# Altium schematic symbol library J 集成块.SchLib: 438 symbols (part 2 of 2)
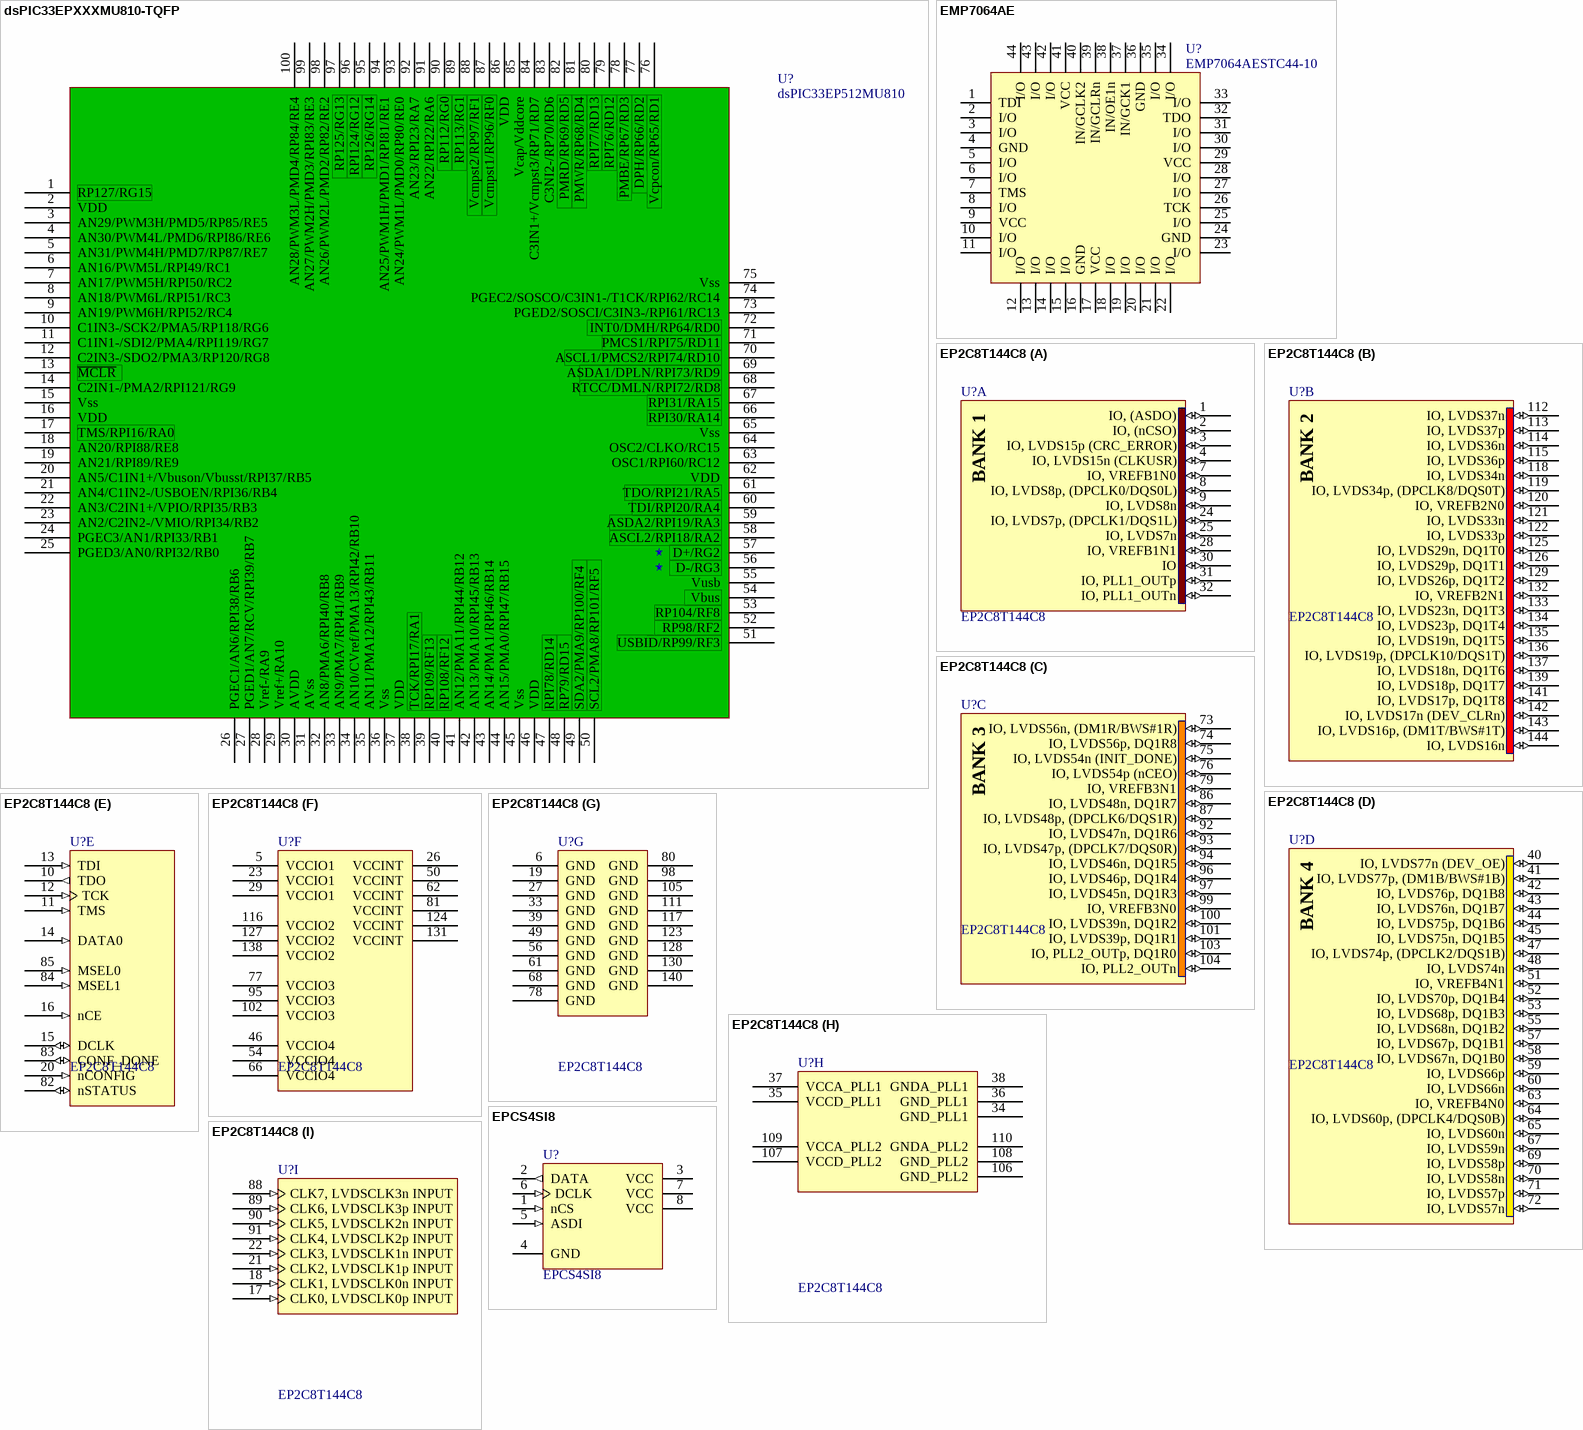
[diagram p19: symbols dsPIC33EPXXXMU810-TQFP to EPCS4SI8]

## dsPIC33EPXXXMU810-TQFP
designator U?, comment dsPIC33EP512MU810
pins: 1 RP127/RG15, 2 VDD, 3 AN29/PWM3H/PMD5/RP85/RE5, 4 AN30/PWM4L/PMD6/RPI86/RE6, 5 AN31/PWM4H/PMD7/RP87/RE7, 6 AN16/PWM5L/RPI49/RC1, 7 AN17/PWM5H/RPI50/RC2, 8 AN18/PWM6L/RPI51/RC3, 9 AN19/PWM6H/RPI52/RC4, 10 C1IN3-/SCK2/PMA5/RP118/RG6, 11 C1IN1-/SDI2/PMA4/RPI119/RG7, 12 C2IN3-/SDO2/PMA3/RP120/RG8, 13 ~{MCLR}, 14 C2IN1-/PMA2/RPI121/RG9, 15 Vss, 16 VDD, 17 TMS/RPI16/RA0, 18 AN20/RPI88/RE8, 19 AN21/RPI89/RE9, 20 AN5/C1IN1+/Vbuson/Vbusst/RPI37/RB5, 21 AN4/C1IN2-/USBOEN/RPI36/RB4, 22 AN3/C2IN1+/VPIO/RPI35/RB3, 23 AN2/C2IN2-/VMIO/RPI34/RB2, 24 PGEC3/AN1/RPI33/RB1, 25 PGED3/AN0/RPI32/RB0, 26 PGEC1/AN6/RPI38/RB6, 27 PGED1/AN7/RCV/RPI39/RB7, 28 Vref-/RA9, 29 Vref+/RA10, 30 AVDD, 31 AVss, 32 AN8/PMA6/RPI40/RB8, 33 AN9/PMA7/RPI41/RB9, 34 AN10/CVref/PMA13/RPI42/RB10, 35 AN11/PMA12/RPI43/RB11, 36 Vss, 37 VDD, 38 TCK/RPI17/RA1, 39 RP109/RF13, 40 RP108/RF12, 41 AN12/PMA11/RPI44/RB12, 42 AN13/PMA10/RPI45/RB13, 43 AN14/PMA1/RPI46/RB14, 44 AN15/PMA0/RPI47/RB15, 45 Vss, 46 VDD, 47 RPI78/RD14, 48 RP79/RD15, 49 SDA2/PMA9/RP100/RF4, 50 SCL2/PMA8/RP101/RF5, 51 USBID/RP99/RF3, 52 RP98/RF2, 53 RP104/RF8, 54 Vbus, 55 Vusb, 56 D-/RG3, 57 D+/RG2, 58 ASCL2/RPI18/RA2, 59 ASDA2/RPI19/RA3, 60 TDI/RPI20/RA4, 61 TDO/RPI21/RA5, 62 VDD, 63 OSC1/RPI60/RC12, 64 OSC2/CLKO/RC15, 65 Vss, 66 RPI30/RA14, 67 RPI31/RA15, 68 RTCC/DMLN/RPI72/RD8, 69 ASDA1/DPLN/RPI73/RD9, 70 ASCL1/PMCS2/RPI74/RD10, 71 PMCS1/RPI75/RD11, 72 INT0/DMH/RP64/RD0, 73 PGED2/SOSCI/C3IN3-/RPI61/RC13, 74 PGEC2/SOSCO/C3IN1-/T1CK/RPI62/RC14, 75 Vss, 76 Vcpcon/RP65/RD1, 77 DPH/RP66/RD2, 78 PMBE/RP67/RD3, 79 RPI76/RD12, 80 RPI77/RD13, 81 PMWR/RP68/RD4, 82 PMRD/RP69/RD5, 83 C3NI2-/RP70/RD6, 84 C3IN1+/Vcmpst3/RP71/RD7, 85 Vcap/Vddcore, 86 VDD, 87 Vcmpst1/RP96/RF0, 88 Vcmpst2/RP97/RF1, 89 RP113/RG1, 90 RP112/RG0, 91 AN22/RPI22/RA6, 92 AN23/RPI23/RA7, 93 AN24/PWM1L/PMD0/RP80/RE0, 94 AN25/PWM1H/PMD1/RPI81/RE1, 95 RP126/RG14, 96 RPI124/RG12, 97 RP125/RG13, 98 AN26/PWM2L/PMD2/RP82/RE2, 99 AN27/PWM2H/PMD3/RPI83/RE3, 100 AN28/PWM3L/PMD4/RP84/RE4
text: ★

## EMP7064AE
designator U?, comment EMP7064AESTC44-10
ATMEL公司CPLD
pins: 1 TDI, 2 I/O, 3 I/O, 4 GND, 5 I/O, 6 I/O, 7 TMS, 8 I/O, 9 VCC, 10 I/O, 11 I/O, 12 I/O, 13 I/O, 14 I/O, 15 I/O, 16 GND, 17 VCC, 18 I/O, 19 I/O, 20 I/O, 21 I/O, 22 I/O, 23 I/O, 24 GND, 25 I/O, 26 TCK, 27 I/O, 28 I/O, 29 VCC, 30 I/O, 31 I/O, 32 TDO, 33 I/O, 34 I/O, 35 I/O, 36 GND, 37 IN/GCK1, 38 IN/OE1n, 39 IN/GCLRn, 40 IN/GCLK2, 41 VCC, 42 I/O, 43 I/O, 44 I/O
2 alternate drawings of the same symbol

## EP2C8T144C8
designator U?
Cyclone II Family, 1.2V FPGA, 85 I/O Pins, 2 PLLs, 144-Pin TQFP, Speed Grade 8, Commercial Grade; Published: 4-Mar-2005; LatestRevisionDate: 14-May-2007; LatestRevisionNote: DATA0 pin is now INPUT.; DatasheetVersion: ver3.3, Feb-2008; PackageVersion: ver15.4, Dec-2008; PackageReference: TQFP144; Publisher: Altium Limited; PackageDescription: 144-Pin Plastic Thin Quad Flat Pack (TQFP144) - Wire Bond; Supplier 1: Digi-Key; Supplier Part Number 1: 544-1458-ND; Code_JEDEC: MS-026-BFB; ComponentLink1Description: Manufacturer Link; ComponentLink1URL: http://www.altera.com/products/devices/cyclone2/cy2-index.jsp; ComponentLink2Description: Handbook; ComponentLink2URL: http://www.altera.com/literature/hb/cyc2/cyc2_cii5v1.pdf; ComponentLink3Description: Packaging Specification; ComponentLink3URL: http://www.altera.com/literature/ds/dspkg.pdf
part A pins: 1 IO, (ASDO) (io), 2 IO, (nCSO) (io), 3 IO, LVDS15p (CRC_ERROR) (io), 4 IO, LVDS15n (CLKUSR) (io), 7 IO, VREFB1N0 (io), 8 IO, LVDS8p, (DPCLK0/DQS0L) (io), 9 IO, LVDS8n (io), 24 IO, LVDS7p, (DPCLK1/DQS1L) (io), 25 IO, LVDS7n (io), 28 IO, VREFB1N1 (io), 30 IO (io), 31 IO, PLL1_OUTp (io), 32 IO, PLL1_OUTn (io)
part B pins: 112 IO, LVDS37n (io), 113 IO, LVDS37p (io), 114 IO, LVDS36n (io), 115 IO, LVDS36p (io), 118 IO, LVDS34n (io), 119 IO, LVDS34p, (DPCLK8/DQS0T) (io), 120 IO, VREFB2N0 (io), 121 IO, LVDS33n (io), 122 IO, LVDS33p (io), 125 IO, LVDS29n, DQ1T0 (io), 126 IO, LVDS29p, DQ1T1 (io), 129 IO, LVDS26p, DQ1T2 (io), 132 IO, VREFB2N1 (io), 133 IO, LVDS23n, DQ1T3 (io), 134 IO, LVDS23p, DQ1T4 (io), 135 IO, LVDS19n, DQ1T5 (io), 136 IO, LVDS19p, (DPCLK10/DQS1T) (io), 137 IO, LVDS18n, DQ1T6 (io), 139 IO, LVDS18p, DQ1T7 (io), 141 IO, LVDS17p, DQ1T8 (io), 142 IO, LVDS17n (DEV_CLRn) (io), 143 IO, LVDS16p, (DM1T/BWS#1T) (io), 144 IO, LVDS16n (io)
part C pins: 73 IO, LVDS56n, (DM1R/BWS#1R) (io), 74 IO, LVDS56p, DQ1R8 (io), 75 IO, LVDS54n (INIT_DONE) (io), 76 IO, LVDS54p (nCEO) (io), 79 IO, VREFB3N1 (io), 86 IO, LVDS48n, DQ1R7 (io), 87 IO, LVDS48p, (DPCLK6/DQS1R) (io), 92 IO, LVDS47n, DQ1R6 (io), 93 IO, LVDS47p, (DPCLK7/DQS0R) (io), 94 IO, LVDS46n, DQ1R5 (io), 96 IO, LVDS46p, DQ1R4 (io), 97 IO, LVDS45n, DQ1R3 (io), 99 IO, VREFB3N0 (io), 100 IO, LVDS39n, DQ1R2 (io), 101 IO, LVDS39p, DQ1R1 (io), 103 IO, PLL2_OUTp, DQ1R0 (io), 104 IO, PLL2_OUTn (io)
part D pins: 40 IO, LVDS77n (DEV_OE) (io), 41 IO, LVDS77p, (DM1B/BWS#1B) (io), 42 IO, LVDS76p, DQ1B8 (io), 43 IO, LVDS76n, DQ1B7 (io), 44 IO, LVDS75p, DQ1B6 (io), 45 IO, LVDS75n, DQ1B5 (io), 47 IO, LVDS74p, (DPCLK2/DQS1B) (io), 48 IO, LVDS74n (io), 51 IO, VREFB4N1 (io), 52 IO, LVDS70p, DQ1B4 (io), 53 IO, LVDS68p, DQ1B3 (io), 55 IO, LVDS68n, DQ1B2 (io), 57 IO, LVDS67p, DQ1B1 (io), 58 IO, LVDS67n, DQ1B0 (io), 59 IO, LVDS66p (io), 60 IO, LVDS66n (io), 63 IO, VREFB4N0 (io), 64 IO, LVDS60p, (DPCLK4/DQS0B) (io), 65 IO, LVDS60n (io), 67 IO, LVDS59n (io), 69 IO, LVDS58p (io), 70 IO, LVDS58n (io), 71 IO, LVDS57p (io), 72 IO, LVDS57n (io)
part E pins: 10 TDO (out), 11 TMS (in), 12 TCK (in), 13 TDI (in), 14 DATA0 (in), 15 DCLK (io), 16 nCE (in), 20 nCONFIG (in), 82 nSTATUS (io), 83 CONF_DONE (io), 84 MSEL1 (in), 85 MSEL0 (in)
part F pins: 5 VCCIO1 (power), 23 VCCIO1 (power), 26 VCCINT (power), 29 VCCIO1 (power), 46 VCCIO4 (power), 50 VCCINT (power), 54 VCCIO4 (power), 62 VCCINT (power), 66 VCCIO4 (power), 77 VCCIO3 (power), 81 VCCINT (power), 95 VCCIO3 (power), 102 VCCIO3 (power), 116 VCCIO2 (power), 124 VCCINT (power), 127 VCCIO2 (power), 131 VCCINT (power), 138 VCCIO2 (power)
part G pins: 6 GND (power), 19 GND (power), 27 GND (power), 33 GND (power), 39 GND (power), 49 GND (power), 56 GND (power), 61 GND (power), 68 GND (power), 78 GND (power), 80 GND (power), 98 GND (power), 105 GND (power), 111 GND (power), 117 GND (power), 123 GND (power), 128 GND (power), 130 GND (power), 140 GND (power)
part H pins: 34 GND_PLL1 (power), 35 VCCD_PLL1 (power), 36 GND_PLL1 (power), 37 VCCA_PLL1 (power), 38 GNDA_PLL1 (power), 106 GND_PLL2 (power), 107 VCCD_PLL2 (power), 108 GND_PLL2 (power), 109 VCCA_PLL2 (power), 110 GNDA_PLL2 (power)
part I pins: 17 CLK0, LVDSCLK0p INPUT (in), 18 CLK1, LVDSCLK0n INPUT (in), 21 CLK2, LVDSCLK1p INPUT (in), 22 CLK3, LVDSCLK1n INPUT (in), 88 CLK7, LVDSCLK3n INPUT (in), 89 CLK6, LVDSCLK3p INPUT (in), 90 CLK5, LVDSCLK2n INPUT (in), 91 CLK4, LVDSCLK2p INPUT (in)
part A text: BANK 1
part B text: BANK 2
part C text: BANK 3
part D text: BANK 4

## EPCS4SI8
designator U?
EPCS4 Series, In-system programmable 3.3V serial configuration device, 8-Pin SOIC, 4-Megabit, Industrial Grade; Configures: Cyclone II, Stratix II, & Cyclone Devices; Published: 17-Sep-2003; LatestRevisionDate: 13-Apr-2006; LatestRevisionNote: IPC-7351 Footprint Added.; DatasheetVersion: ver2.0, Oct-2003; PackageVersion: ver14.2, Oct-2005; PackageReference: SOIC8; Publisher: Altium Limited; PackageDescription: 8-Pin Small Outline Integrated Circuit Package (SOIC8); Supplier 1: Digi-Key; Supplier Part Number 1: 544-1243-5-ND; Code_JEDEC: MS-012-AA; Code_IPC: SOIC127P600-8; ComponentLink1Description: Manufacturer Link; ComponentLink1URL: http://www.altera.com/products/devices/config/cfg-index.html; ComponentLink2Description: Configuration Handbook; ComponentLink2URL: http://www.altera.com/literature/hb/cfg/config_handbook.pdf; ComponentLink3Description: Pinout Specification; ComponentLink3URL: http://www.altera.com/literature/hb/cfg/cyc_c51014.pdf; ComponentLink4Description: Packaging Specification; ComponentLink4URL: http://www.altera.com/literature/ds/dspkg.pdf
pins: 1 nCS (in) "Active low, chip select input", 2 DATA (out) "Serial data out", 3 VCC (power) "3.3V supply", 4 GND (power) "Ground", 5 ASDI (in) "AS data in", 6 DCLK (in) "Provides timing of the serial interface", 7 VCC (power) "3.3V supply", 8 VCC (power) "3.3V supply"

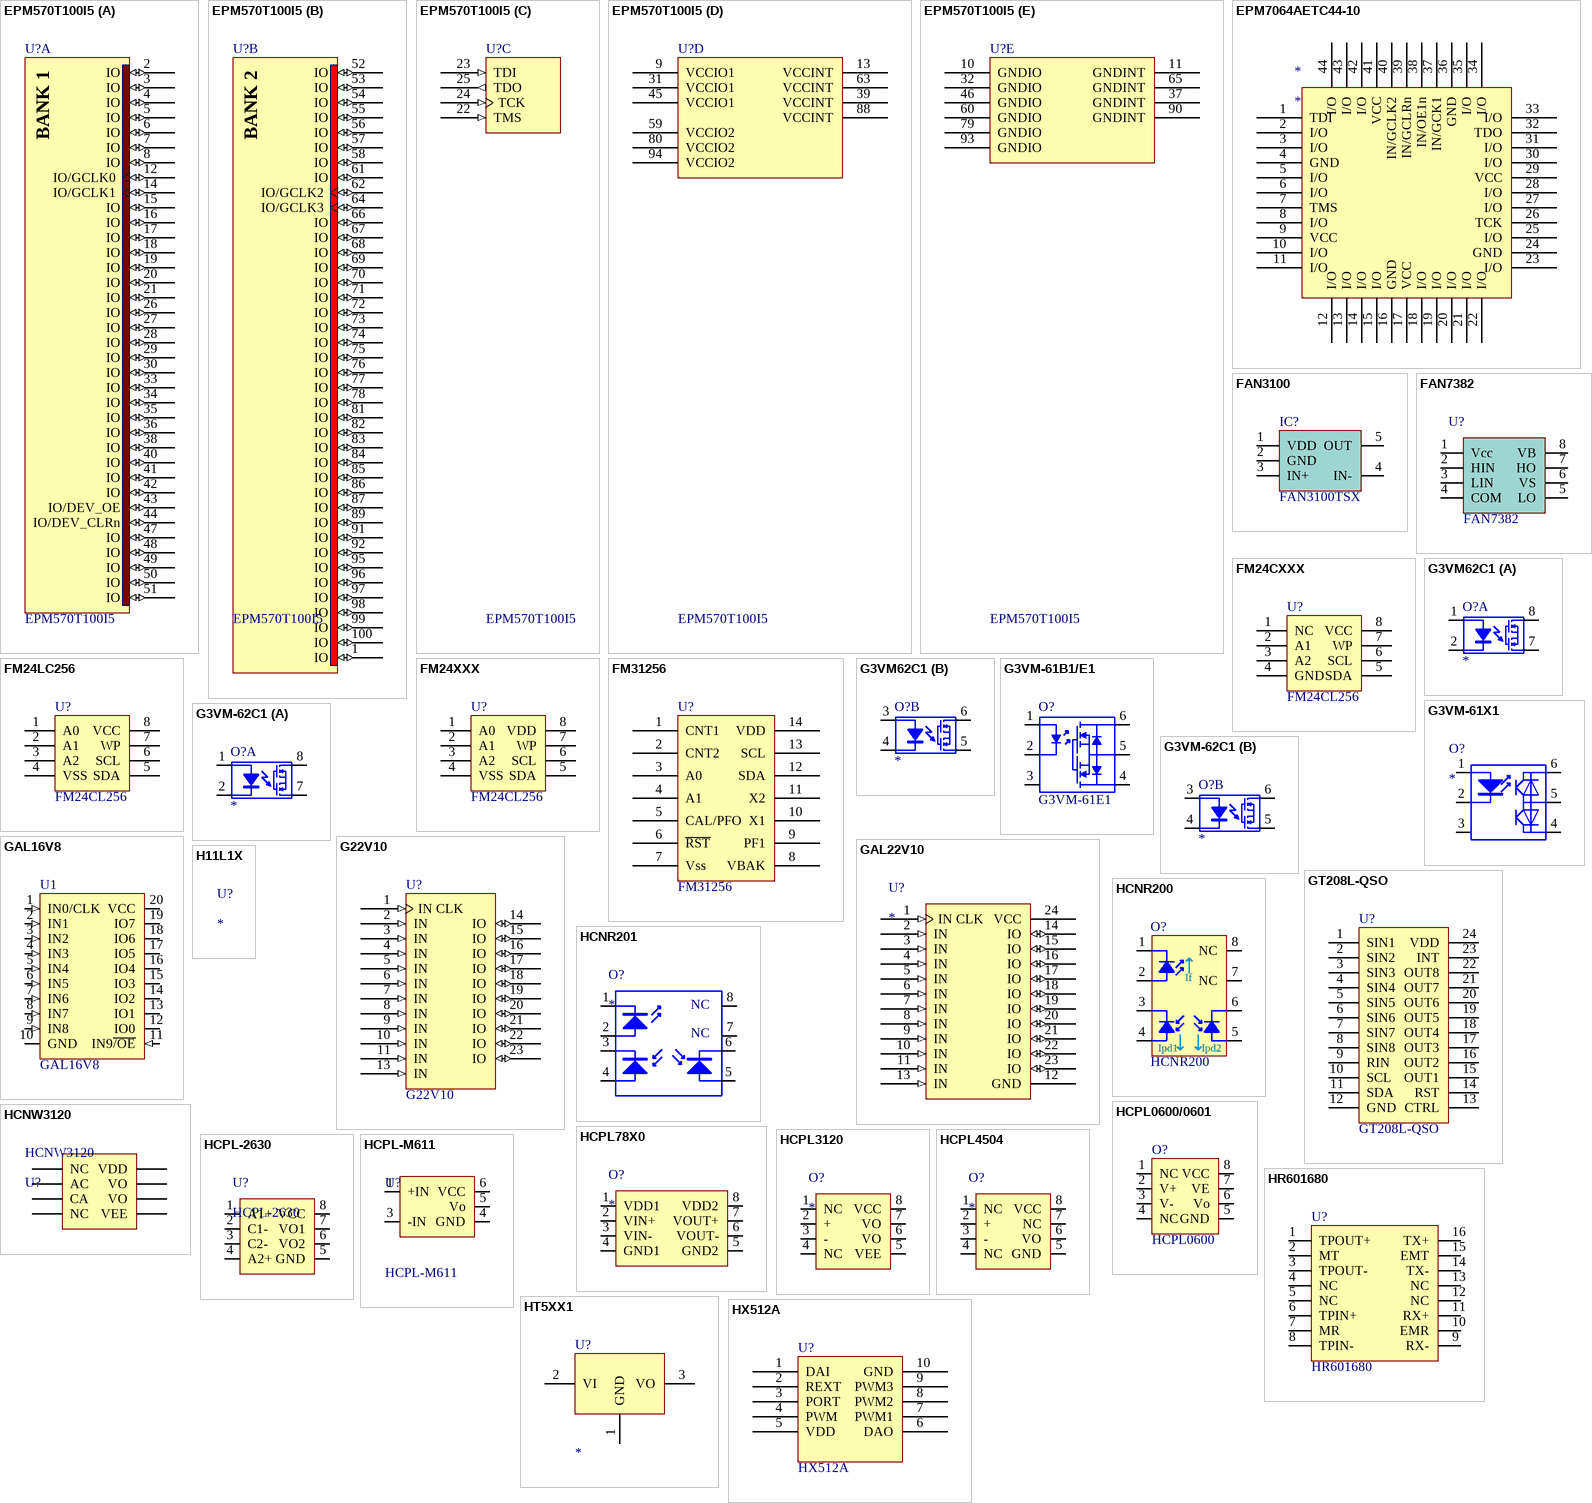
[diagram p10: symbols EPM570T100I5 to HX512A]

## EPM570T100I5
designator U?
MAX II 3.3/2.5V CPLD, 76 IOs, 570 Logic Elements, 100-Pin Plastic TQFP, Industrial Temperature, Speed Grade 5; Note: Each set of VCCIO pins can be connected to 3.3V, 2.5V, 1.8V, or 1.5V.; Note: All VCCINT pins must be connected to either 3.3V or 2.5V (but not a combination of both).; Published: 18-Aug-2005; LatestRevisionDate: 13-Apr-2006; LatestRevisionNote: IPC-7351 Footprint Added.; DatasheetVersion: ver1.8, Jul-2006; PackageVersion: ver14.3, Jul-2006; PackageReference: TQFP100; Publisher: Altium Limited; PackageDescription: 100-Pin Plastic Thin Quad Flat Pack (TQFP100); Code_JEDEC: MS-026-AED; ComponentLink1Description: Manufacturer Link; ComponentLink1URL: http://www.altera.com/products/devices/cpld/max2/mx2-index.jsp; ComponentLink2Description: Handbook; ComponentLink2URL: http://www.altera.com/literature/hb/max2/max2_mii5v1.pdf; ComponentLink3Description: Packaging Specification; ComponentLink3URL: http://www.altera.com/literature/ds/dspkg.pdf
part A pins: 2 IO (io), 3 IO (io), 4 IO (io), 5 IO (io), 6 IO (io), 7 IO (io), 8 IO (io), 12 IO/GCLK0 (io), 14 IO/GCLK1 (io), 15 IO (io), 16 IO (io), 17 IO (io), 18 IO (io), 19 IO (io), 20 IO (io), 21 IO (io), 26 IO (io), 27 IO (io), 28 IO (io), 29 IO (io), 30 IO (io), 33 IO (io), 34 IO (io), 35 IO (io), 36 IO (io), 38 IO (io), 40 IO (io), 41 IO (io), 42 IO (io), 43 IO/DEV_OE (io), 44 IO/DEV_CLRn (io), 47 IO (io), 48 IO (io), 49 IO (io), 50 IO (io), 51 IO (io)
part B pins: 1 IO (io), 52 IO (io), 53 IO (io), 54 IO (io), 55 IO (io), 56 IO (io), 57 IO (io), 58 IO (io), 61 IO (io), 62 IO/GCLK2 (io), 64 IO/GCLK3 (io), 66 IO (io), 67 IO (io), 68 IO (io), 69 IO (io), 70 IO (io), 71 IO (io), 72 IO (io), 73 IO (io), 74 IO (io), 75 IO (io), 76 IO (io), 77 IO (io), 78 IO (io), 81 IO (io), 82 IO (io), 83 IO (io), 84 IO (io), 85 IO (io), 86 IO (io), 87 IO (io), 89 IO (io), 91 IO (io), 92 IO (io), 95 IO (io), 96 IO (io), 97 IO (io), 98 IO (io), 99 IO (io), 100 IO (io)
part C pins: 22 TMS (in), 23 TDI (in), 24 TCK (in), 25 TDO (out)
part D pins: 9 VCCIO1 (power), 13 VCCINT (power), 31 VCCIO1 (power), 39 VCCINT (power), 45 VCCIO1 (power), 59 VCCIO2 (power), 63 VCCINT (power), 80 VCCIO2 (power), 88 VCCINT (power), 94 VCCIO2 (power)
part E pins: 10 GNDIO (power), 11 GNDINT (power), 32 GNDIO (power), 37 GNDINT (power), 46 GNDIO (power), 60 GNDIO (power), 65 GNDINT (power), 79 GNDIO (power), 90 GNDINT (power), 93 GNDIO (power)
part A text: BANK 1
part B text: BANK 2

## EPM7064AETC44-10
designator *
pins: 1 TDI, 2 I/O, 3 I/O, 4 GND, 5 I/O, 6 I/O, 7 TMS, 8 I/O, 9 VCC, 10 I/O, 11 I/O, 12 I/O, 13 I/O, 14 I/O, 15 I/O, 16 GND, 17 VCC, 18 I/O, 19 I/O, 20 I/O, 21 I/O, 22 I/O, 23 I/O, 24 GND, 25 I/O, 26 TCK, 27 I/O, 28 I/O, 29 VCC, 30 I/O, 31 I/O, 32 TDO, 33 I/O, 34 I/O, 35 I/O, 36 GND, 37 IN/GCK1, 38 IN/OE1n, 39 IN/GCLRn, 40 IN/GCLK2, 41 VCC, 42 I/O, 43 I/O, 44 I/O

## FAN3100
designator IC?, comment FAN3100TSX
pins: 1 VDD (oc), 2 GND, 3 IN+, 4 IN-, 5 OUT

## FAN7382
designator U?
pins: 1 Vcc (oc), 2 HIN, 3 LIN, 4 COM (power), 5 LO, 6 VS, 7 HO, 8 VB

## FM24CXXX
designator U?, comment FM24CL256
pins: 1 NC, 2 A1, 3 A2, 4 GND, 5 SDA, 6 SCL, 7 WP, 8 VCC

## FM24LC256
designator U?, comment FM24CL256
pins: 1 A0, 2 A1, 3 A2, 4 VSS, 5 SDA, 6 SCL, 7 WP, 8 VCC

## FM24XXX
designator U?, comment FM24CL256
pins: 1 A0, 2 A1, 3 A2, 4 VSS, 5 SDA, 6 SCL, 7 WP, 8 VDD

## FM31256
designator U?
pins: 1 CNT1, 2 CNT2, 3 A0, 4 A1, 5 CAL/PFO, 6 ~{RST}, 7 Vss, 8 VBAK, 9 PF1, 10 X1, 11 X2, 12 SDA, 13 SCL, 14 VDD

## G3VM62C1
designator O?
光耦
part A pins: 1 A, 2 K, 7, 8
part B pins: 3 A, 4 K, 5, 6

## G3VM-61B1/E1
designator O?, comment G3VM-61E1
光耦继电器
pins: 1, 2, 3, 4, 5, 6

## G3VM-61X1
designator O?
隔离器件
pins: 1, 2, 3, 4, 5, 6

## G3VM-62C1
designator O?
隔离器件
part A pins: 1, 2, 7, 8
part B pins: 3, 4, 5, 6

## G22V10
designator U?
IC CMOS PLD HIGH PERFORMANCE E
pins: 1 IN CLK (in), 2 IN  (in), 3 IN (in), 4 IN (in), 5 IN (in), 6 IN (in), 7 IN (in), 8 IN (in), 9 IN  (in), 10 IN  (in), 11 IN  (in), 12 GND (power) hidden to GND, 13 IN (in), 14 IO (io), 15 IO (io), 16 IO (io), 17 IO (io), 18 IO (io), 19 IO (io), 20 IO (io), 21 IO (io), 22 IO (io), 23 IO (io), 24 VCC (power) hidden to VCC

## GAL16V8
designator U1
集成块
pins: 1 IN0/CLK (in), 2 IN1 (in), 3 IN2 (in), 4 IN3 (in), 5 IN4 (in), 6 IN5 (in), 7 IN6 (in), 8 IN7 (in), 9 IN8 (in), 10 GND (power), 11 IN9~{/OE} (in), 12 IO0 (io), 13 IO1 (io), 14 IO2 (io), 15 IO3 (io), 16 IO4 (io), 17 IO5 (io), 18 IO6 (io), 19 IO7 (io), 20 VCC (power)

## GAL22V10
designator U?
pins: 1 IN CLK (in), 2 IN (in), 3 IN (in), 4 IN (in), 5 IN (in), 6 IN (in), 7 IN (in), 8 IN (in), 9 IN (in), 10 IN (in), 11 IN (in), 12 GND, 13 IN (in), 14 IO (io), 15 IO (io), 16 IO (io), 17 IO (io), 18 IO (io), 19 IO (io), 20 IO (io), 21 IO (io), 22 IO (io), 23 IO (io), 24 VCC

## GT208L-QSO
designator U?
GREEN TOUCH触摸芯片
pins: 1 SIN1, 2 SIN2, 3 SIN3, 4 SIN4, 5 SIN5, 6 SIN6, 7 SIN7, 8 SIN8, 9 RIN, 10 SCL, 11 SDA, 12 GND, 13 CTRL, 14 RST, 15 OUT1, 16 OUT2, 17 OUT3, 18 OUT4, 19 OUT5, 20 OUT6, 21 OUT7, 22 OUT8, 23 INT, 24 VDD

## H11L1X
designator U?

## HCNR200
designator O?
线性光藕
pins: 1, 2, 3, 4, 5, 6, 7 NC, 8 NC
text: If; Ipd1; Ipd2

## HCNR201
designator O?
隔离器件
pins: 1, 2, 3, 4, 5, 6, 7, 8
text: NC

## HCNW3120
designator HCNW3120, comment U?
pins: 1 NC, 2 AC, 3 CA, 4 NC, 5 VEE, 6 VO, 7 VO, 8 VDD

## HCPL78X0
designator O?
隔离器件
pins: 1 VDD1, 2 VIN+, 3 VIN-, 4 GND1, 5 GND2, 6 VOUT-, 7 VOUT+, 8 VDD2

## HCPL0600/0601
designator O?, comment HCPL0600
高速光耦
pins: 1 NC, 2 V+, 3 V-, 4 NC, 5 GND, 6 Vo, 7 VE, 8 VCC

## HCPL3120
designator O?
隔离器件
pins: 1 NC, 2 +, 3 -, 4 NC, 5 VEE, 6 VO, 7 VO, 8 VCC

## HCPL4504
designator O?
隔离器件
pins: 1 NC, 2 +, 3 -, 4 NC, 5 GND, 6 VO, 7 NC, 8 VCC

## HCPL-2630
designator U?
pins: 1 A1+, 2 C1-, 3 C2-, 4 A2+, 5 GND, 6 VO2, 7 VO1, 8 VCC

## HCPL-M611
designator U?
高速光耦
pins: 1 +IN, 3 -IN, 4 GND, 5 Vo, 6 VCC

## HR601680
designator U?
pins: 1 TPOUT+, 2 MT, 3 TPOUT-, 4 NC, 5 NC, 6 TPIN+, 7 MR, 8 TPIN-, 9 RX-, 10 EMR, 11 RX+, 12 NC, 13 NC, 14 TX-, 15 EMT, 16 TX+

## HT5XX1
designator U?
集成稳压块
pins: 1 GND, 2 VI, 3 VO

## HX512A
designator U?
pins: 1 DAI, 2 REXT, 3 PORT, 4 PWM, 5 VDD, 6 DAO, 7 PWM1, 8 PWM2, 9 PWM3, 10 GND

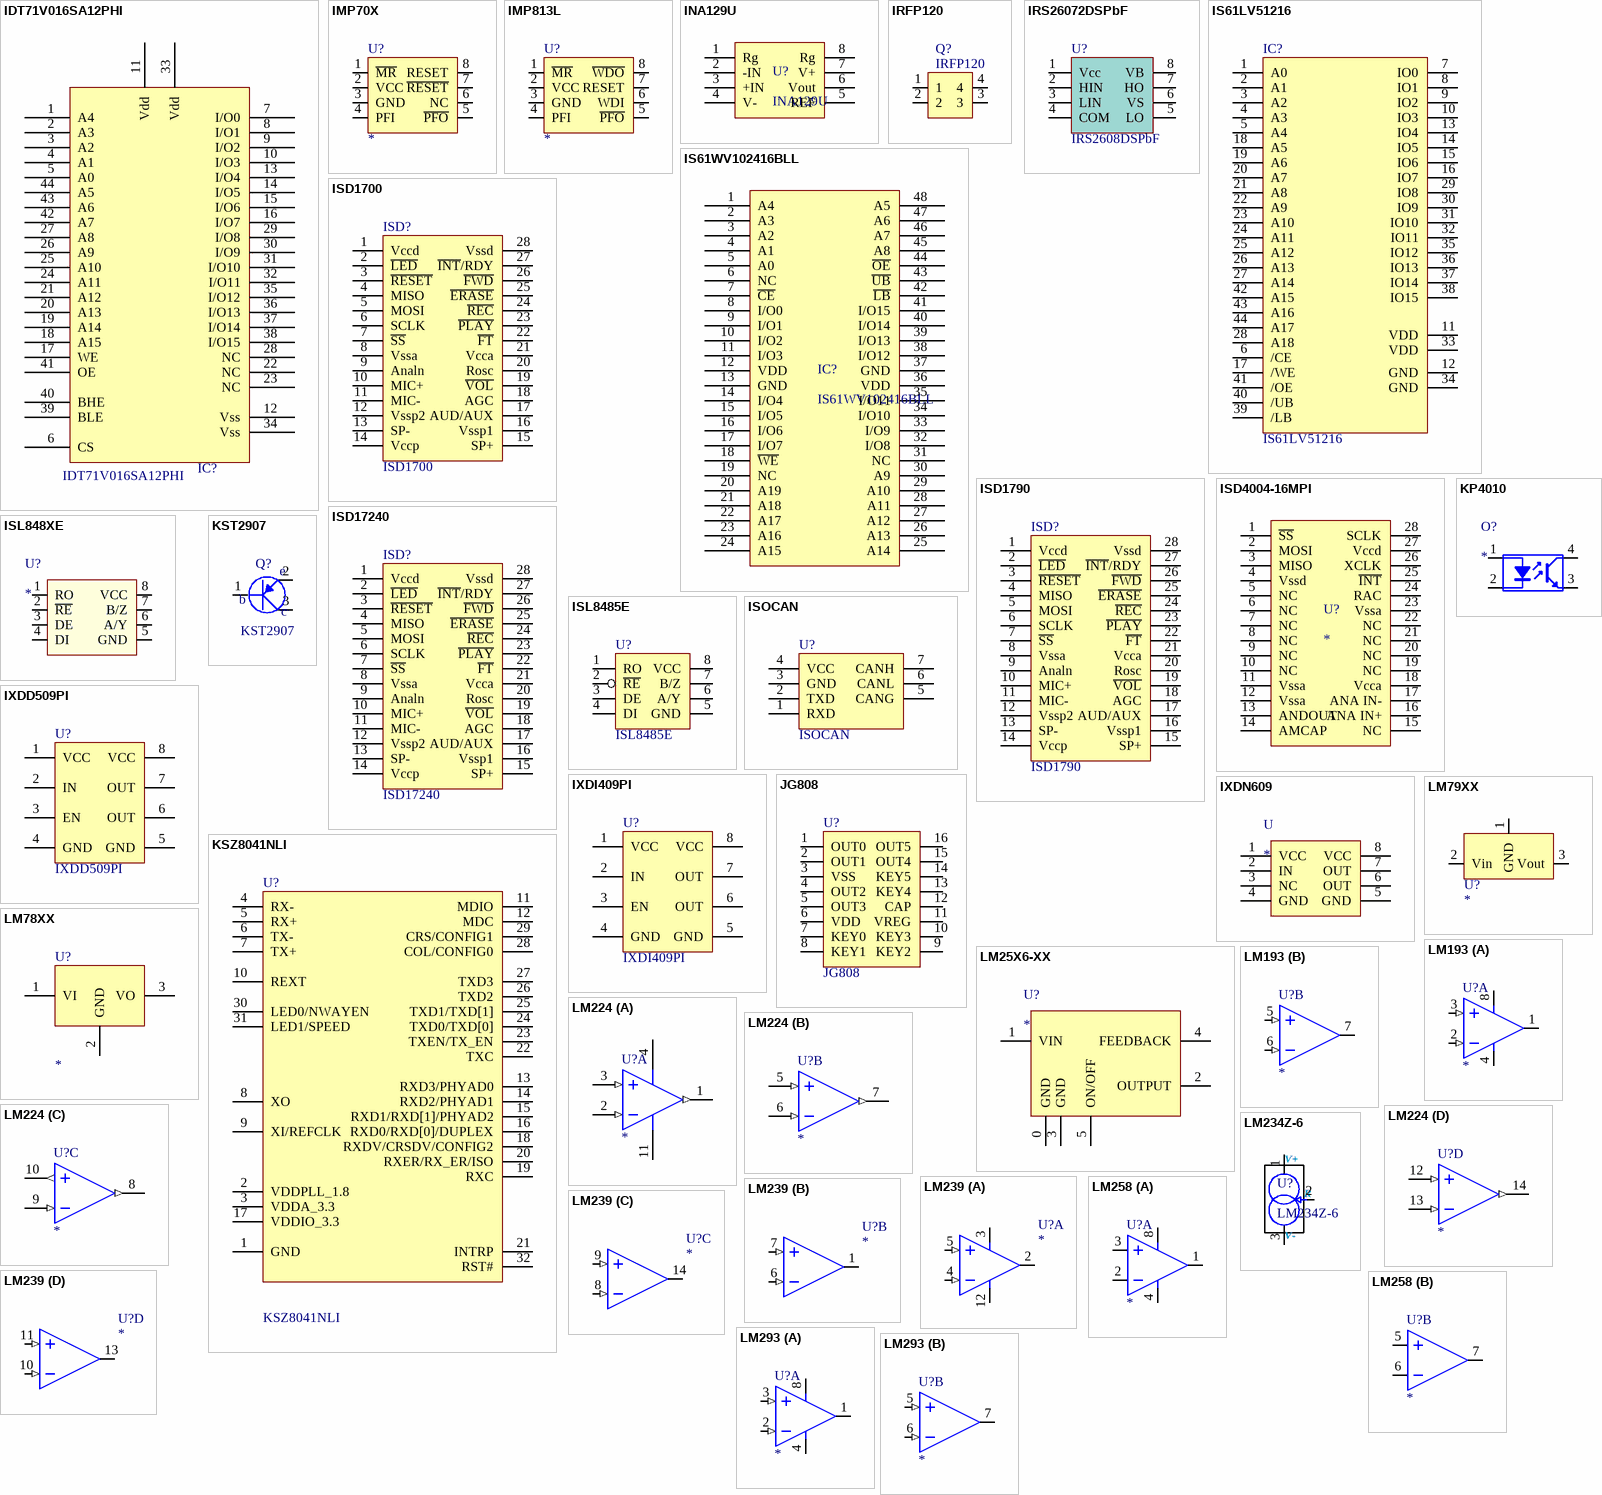
[diagram p11: symbols IDT71V016SA12PHI to LM293]

## IDT71V016SA12PHI
designator IC?
pins: 1 A4, 2 A3, 3 A2, 4 A1, 5 A0, 6 CS, 7 I/O0, 8 I/O1, 9 I/O2, 10 I/O3, 11 Vdd, 12 Vss, 13 I/O4, 14 I/O5, 15 I/O6, 16 I/O7, 17 WE, 18 A15, 19 A14, 20 A13, 21 A12, 22 NC, 23 NC, 24 A11, 25 A10, 26 A9, 27 A8, 28 NC, 29 I/O8, 30 I/O9, 31 I/O10, 32 I/O11, 33 Vdd, 34 Vss, 35 I/O12, 36 I/O13, 37 I/O14, 38 I/O15, 39 BLE, 40 BHE, 41 OE, 42 A7, 43 A6, 44 A5
2 alternate drawings of the same symbol

## IMP70X
designator U?
集成块
pins: 1 ~{MR}, 2 VCC, 3 GND, 4 PFI, 5 ~{PFO}, 6 NC, 7 ~{RESET}, 8 RESET

## IMP813L
designator U?
集成块
pins: 1 ~{MR}, 2 VCC, 3 GND, 4 PFI, 5 ~{PFO}, 6 WDI, 7 RESET, 8 ~{WDO}

## INA129U
designator U?
pins: 1 Rg, 2 -IN, 3 +IN, 4 V-, 5 REF, 6 Vout, 7 V+, 8 Rg

## IRFP120
designator Q?
pins: 1, 2, 3, 4

## IRS26072DSPbF
designator U?, comment IRS2608DSPbF
pins: 1 Vcc (oc), 2 HIN, 3 LIN, 4 COM (power), 5 LO, 6 VS, 7 HO, 8 VB

## IS61LV51216
designator IC?
pins: 1 A0, 2 A1, 3 A2, 4 A3, 5 A4, 6 /CE, 7 IO0, 8 IO1, 9 IO2, 10 IO3, 11 VDD, 12 GND, 13 IO4, 14 IO5, 15 IO6, 16 IO7, 17 /WE, 18 A5, 19 A6, 20 A7, 21 A8, 22 A9, 23 A10, 24 A11, 25 A12, 26 A13, 27 A14, 28 A18, 29 IO8, 30 IO9, 31 IO10, 32 IO11, 33 VDD, 34 GND, 35 IO12, 36 IO13, 37 IO14, 38 IO15, 39 /LB, 40 /UB, 41 /OE, 42 A15, 43 A16, 44 A17
2 alternate drawings of the same symbol

## IS61WV102416BLL
designator IC?
SRAM 1024K*16
pins: 1 A4, 2 A3, 3 A2, 4 A1, 5 A0, 6 NC, 7 ~{CE}, 8 I/O0, 9 I/O1, 10 I/O2, 11 I/O3, 12 VDD, 13 GND, 14 I/O4, 15 I/O5, 16 I/O6, 17 I/O7, 18 ~{WE}, 19 NC, 20 A19, 21 A18, 22 A17, 23 A16, 24 A15, 25 A14, 26 A13, 27 A12, 28 A11, 29 A10, 30 A9, 31 NC, 32 I/O8, 33 I/O9, 34 I/O10, 35 I/O11, 36 VDD, 37 GND, 38 I/O12, 39 I/O13, 40 I/O14, 41 I/O15, 42 ~{LB}, 43 ~{UB}, 44 ~{OE}, 45 A8, 46 A7, 47 A6, 48 A5

## ISD1700
designator ISD?
pins: 1 Vccd, 2 ~{LED}, 3 ~{RESET}, 4 MISO, 5 MOSI, 6 SCLK, 7 ~{SS}, 8 Vssa, 9 Analn, 10 MIC+, 11 MIC-, 12 Vssp2, 13 SP-, 14 Vccp, 15 SP+, 16 Vssp1, 17 AUD/AUX, 18 AGC, 19 ~{VOL}, 20 Rosc, 21 Vcca, 22 ~{FT}, 23 ~{PLAY}, 24 ~{REC}, 25 ~{ERASE}, 26 ~{FWD}, 27 ~{INT}/RDY, 28 Vssd

## ISD1790
designator ISD?
pins: 1 Vccd, 2 ~{LED}, 3 ~{RESET}, 4 MISO, 5 MOSI, 6 SCLK, 7 ~{SS}, 8 Vssa, 9 Analn, 10 MIC+, 11 MIC-, 12 Vssp2, 13 SP-, 14 Vccp, 15 SP+, 16 Vssp1, 17 AUD/AUX, 18 AGC, 19 ~{VOL}, 20 Rosc, 21 Vcca, 22 ~{FT}, 23 ~{PLAY}, 24 ~{REC}, 25 ~{ERASE}, 26 ~{FWD}, 27 ~{INT}/RDY, 28 Vssd

## ISD4004-16MPI
designator U?
pins: 1 ~{SS}, 2 MOSI, 3 MISO, 4 Vssd, 5 NC, 6 NC, 7 NC, 8 NC, 9 NC, 10 NC, 11 Vssa, 12 Vssa, 13 ANDOUT, 14 AMCAP, 15 NC, 16 ANA IN+, 17 ANA IN-, 18 Vcca, 19 NC, 20 NC, 21 NC, 22 NC, 23 Vssa, 24 RAC, 25 ~{INT}, 26 XCLK, 27 Vccd, 28 SCLK

## ISD17240
designator ISD?
pins: 1 Vccd, 2 ~{LED}, 3 ~{RESET}, 4 MISO, 5 MOSI, 6 SCLK, 7 ~{SS}, 8 Vssa, 9 Analn, 10 MIC+, 11 MIC-, 12 Vssp2, 13 SP-, 14 Vccp, 15 SP+, 16 Vssp1, 17 AUD/AUX, 18 AGC, 19 ~{VOL}, 20 Rosc, 21 Vcca, 22 ~{FT}, 23 ~{PLAY}, 24 ~{REC}, 25 ~{ERASE}, 26 ~{FWD}, 27 ~{INT}/RDY, 28 Vssd

## ISL848XE
designator U?
pins: 1 RO, 2 ~{RE}, 3 DE, 4 DI, 5 GND, 6 A/Y, 7 B/Z, 8 VCC

## ISL8485E
designator U?
pins: 1 RO, 2 ~{RE}, 3 DE, 4 DI, 5 GND, 6 A/Y, 7 B/Z, 8 VCC

## ISOCAN
designator U?
3.3V
pins: 1 RXD, 2 TXD, 3 GND, 4 VCC, 5 CANG, 6 CANL, 7 CANH

## IXDD509PI
designator U?
IC
pins: 1 VCC, 2 IN, 3 EN, 4 GND, 5 GND, 6 OUT, 7 OUT, 8 VCC

## IXDI409PI
designator U?
IC
pins: 1 VCC, 2 IN, 3 EN, 4 GND, 5 GND, 6 OUT, 7 OUT, 8 VCC

## IXDN609
designator U
pins: 1 VCC, 2 IN, 3 NC, 4 GND, 5 GND, 6 OUT, 7 OUT, 8 VCC

## JG808
designator U?
pins: 1 OUT0, 2 OUT1, 3 VSS, 4 OUT2, 5 OUT3, 6 VDD, 7 KEY0, 8 KEY1, 9 KEY2, 10 KEY3, 11 VREG, 12 CAP, 13 KEY4, 14 KEY5, 15 OUT4, 16 OUT5

## KP4010
designator O?
隔离器件
pins: 1, 2, 3, 4

## KST2907
designator Q?
三极管
pins: 1 B, 2 E, 3 C
text: e; b; c

## KSZ8041NLI
designator U?
pins: 1 GND, 2 VDDPLL_1.8, 3 VDDA_3.3, 4 RX-, 5 RX+, 6 TX-, 7 TX+, 8 XO, 9 XI/REFCLK, 10 REXT, 11 MDIO, 12 MDC, 13 RXD3/PHYAD0, 14 RXD2/PHYAD1, 15 RXD1/RXD[1]/PHYAD2, 16 RXD0/RXD[0]/DUPLEX, 17 VDDIO_3.3, 18 RXDV/CRSDV/CONFIG2, 19 RXC, 20 RXER/RX_ER/ISO, 21 INTRP, 22 TXC, 23 TXEN/TX_EN, 24 TXD0/TXD[0], 25 TXD1/TXD[1], 26 TXD2, 27 TXD3, 28 COL/CONFIG0, 29 CRS/CONFIG1, 30 LED0/NWAYEN, 31 LED1/SPEED, 32 RST#
2 alternate drawings of the same symbol

## LM25X6-XX
designator U?
电源管理器件
footprint TO-263-5 (可调电源)
pins: 0 GND, 1 VIN, 2 OUTPUT, 3 GND, 4 FEEDBACK, 5 ON/OFF

## LM78XX
designator U?
集成稳压块
pins: 1 VI, 2 GND, 3 VO

## LM79XX
designator U?
集成稳压块
pins: 1 GND, 2 Vin, 3 Vout

## LM193
designator U?
运放
part A pins: 1 (oc), 2 (in), 3 (in), 4 (power), 8 (power)
part B pins: 5 (in), 6 (in), 7 (oc)

## LM224
designator U?
运放
part A pins: 1 (out), 2 (in), 3 (in), 4 (power), 11 (power)
part B pins: 5 (in), 6 (in), 7 (out)
part C pins: 8 (out), 9 (in), 10 (out)
part D pins: 12 (in), 13 (in), 14 (out)

## LM234Z-6
designator U?
pins: 1 V+ (power), 2 R, 3 V- (power)

## LM239
designator U?
运放
part A pins: 2 (oc), 3 (power), 4 (in), 5 (in), 12 (power)
part B pins: 1 (oc), 6 (in), 7 (in)
part C pins: 8 (in), 9 (in), 14 (oc)
part D pins: 10 (in), 11 (in), 13 (oc)

## LM258
designator U?
运放
part A pins: 1, 2, 3, 4, 8
part B pins: 5, 6, 7

## LM293
designator U?
运放
part A pins: 1 (oc), 2 (in), 3 (in), 4 (power), 8 (power)
part B pins: 5 (in), 6 (in), 7 (oc)

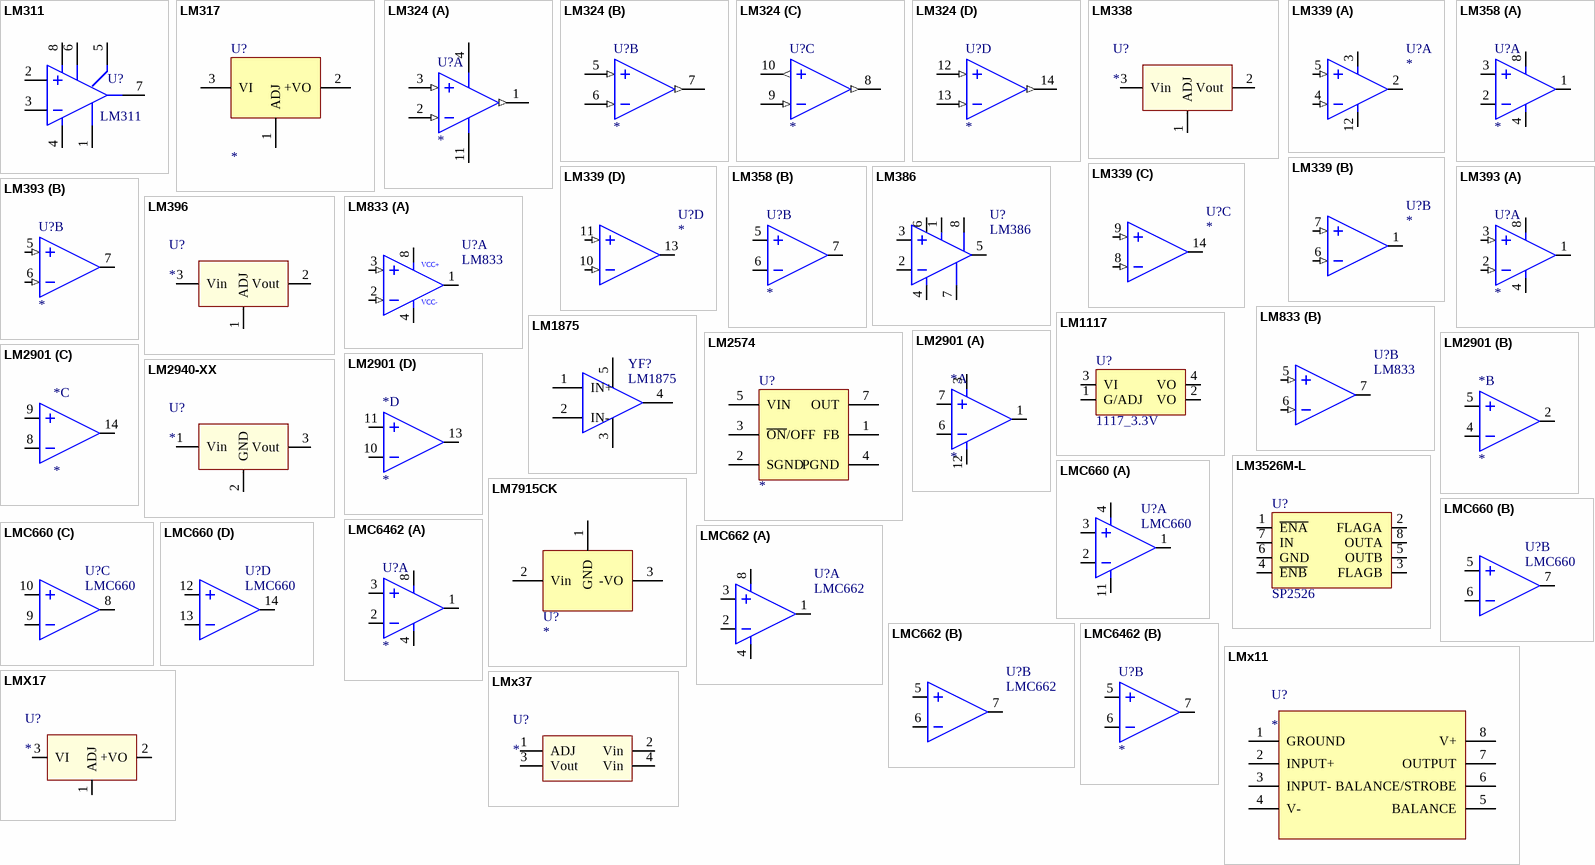
[diagram p12: symbols LM311 to LMx37]

## LM311
designator U?
pins: 1, 2, 3, 4, 5, 6, 7, 8

## LM317
designator U?
集成稳压块
pins: 1 ADJ, 2 +VO, 3 VI

## LM324
designator U?
运放
part A pins: 1 (out), 2 (in), 3 (in), 4 (power), 11 (power)
part B pins: 5 (in), 6 (in), 7 (out)
part C pins: 8 (out), 9 (in), 10 (out)
part D pins: 12 (in), 13 (in), 14 (out)

## LM338
designator U?
电源管理器件
pins: 1 ADJ, 2 Vout, 3 Vin

## LM339
designator U?
运放
part A pins: 2 (oc), 3 (power), 4 (in), 5 (in), 12 (power)
part B pins: 1 (oc), 6 (in), 7 (in)
part C pins: 8 (in), 9 (in), 14 (oc)
part D pins: 10 (in), 11 (in), 13 (oc)

## LM358
designator U?
运放
part A pins: 1, 2, 3, 4, 8
part B pins: 5, 6, 7

## LM386
designator U?
小功率音频功放
pins: 1 VCC, 2, 3, 4 GND, 5, 6 VCC, 7 VCC, 8 VCC

## LM393
designator U?
运放
part A pins: 1 (oc), 2 (in), 3 (in), 4 (power), 8 (power)
part B pins: 5 (in), 6 (in), 7 (oc)

## LM396
designator U?
电源管理器件
pins: 1 ADJ, 2 Vout, 3 Vin

## LM833
designator U?
part A pins: 1 (oc), 2 (in), 3 (in), 4 (power), 8 (power)
part B pins: 5 (in), 6 (in), 7 (oc)
part A text: VCC+; VCC-

## LM1117
designator U?, comment 1117_3.3V
1.8V,2.5V,3,3V,5V LDO稳压芯片
pins: 1 G/ADJ, 2 VO, 3 VI, 4 VO

## LM1875
designator YF?
footprint TDA2030B
footprint TDA2030
pins: 1 IN+, 2 IN-, 3, 4, 5 V

## LM2574
designator U?
集成稳压块
pins: 1 FB, 2 SGND, 3 ~{ON}/OFF, 4 PGND, 5 VIN, 7 OUT

## LM2901
designator *
part A pins: 1, 3 (power), 6, 7, 12 (power)
part B pins: 2, 4, 5
part C pins: 8, 9, 14
part D pins: 10, 11, 13

## LM2940-XX
designator U?
电源管理器件
pins: 1 Vin, 2 GND, 3 Vout

## LM3526M-L
designator U?, comment SP2526
pins: 1 ~{ENA}, 2 FLAGA, 3 FLAGB, 4 ~{ENB}, 5 OUTB, 6 GND, 7 IN, 8 OUTA
2 alternate drawings of the same symbol

## LM7915CK
designator U?
集成稳压块
pins: 1 GND, 2 Vin, 3 -VO

## LMC660
designator U?
part A pins: 1, 2, 3, 4 V+, 11 V-
part B pins: 5, 6, 7
part C pins: 8, 9, 10
part D pins: 12, 13, 14

## LMC662
designator U?
part A pins: 1, 2, 3, 4, 8
part B pins: 5, 6, 7

## LMC6462
designator U?
运放
part A pins: 1, 2, 3, 4, 8
part B pins: 5, 6, 7

## LMx11
designator U?
电源管理器件
pins: 1 GROUND, 2 INPUT+, 3 INPUT-, 4 V-, 5 BALANCE, 6 BALANCE/STROBE, 7 OUTPUT, 8 V+

## LMX17
designator U?
电源管理器件
pins: 1 ADJ, 2 +VO, 3 VI

## LMx37
designator U?
电源管理器件
pins: 1 ADJ, 2 Vin, 3 Vout, 4 Vin

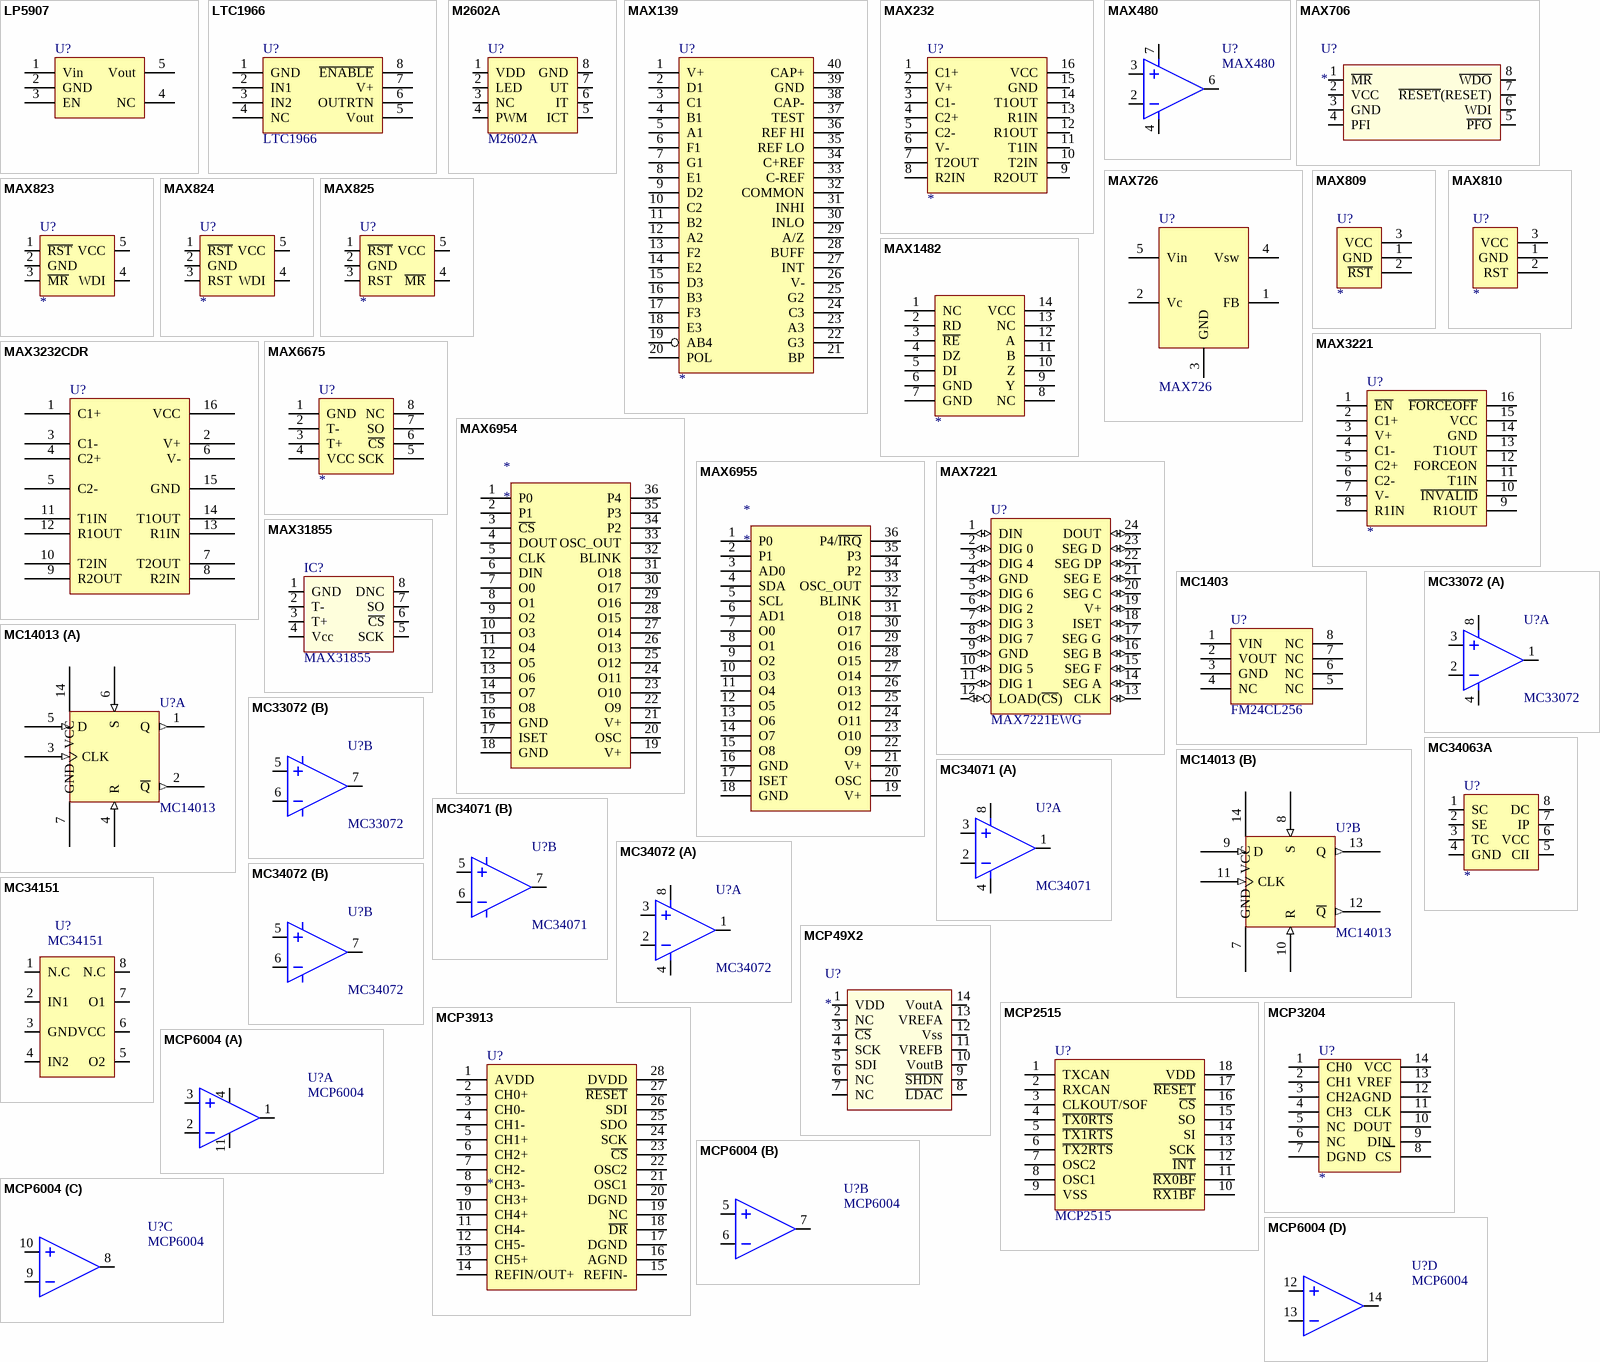
[diagram p13: symbols LP5907 to MCP6004]

## LP5907
designator U?
pins: 1 Vin, 2 GND, 3 EN, 4 NC, 5 Vout

## LTC1966
designator U?
RMS-DC
pins: 1 GND, 2 IN1, 3 IN2, 4 NC, 5 Vout, 6 OUTRTN, 7 V+, 8 ~{ENABLE}

## M2602A
designator U?
3*3.7充电管理芯片
pins: 1 VDD, 2 LED, 3 NC, 4 PWM, 5 ICT, 6 IT, 7 UT, 8 GND

## MAX139
designator U?
pins: 1 V+, 2 D1, 3 C1, 4 B1, 5 A1, 6 F1, 7 G1, 8 E1, 9 D2, 10 C2, 11 B2, 12 A2, 13 F2, 14 E2, 15 D3, 16 B3, 17 F3, 18 E3, 19 AB4, 20 POL, 21 BP, 22 G3, 23 A3, 24 C3, 25 G2, 26 V-, 27 INT, 28 BUFF, 29 A/Z, 30 INLO, 31 INHI, 32 COMMON, 33 C-REF, 34 C+REF, 35 REF LO, 36 REF HI, 37 TEST, 38 CAP-, 39 GND, 40 CAP+

## MAX232
designator U?
集成块
pins: 1 C1+, 2 V+, 3 C1-, 4 C2+, 5 C2-, 6 V-, 7 T2OUT, 8 R2IN, 9 R2OUT, 10 T2IN, 11 T1IN, 12 R1OUT, 13 R1IN, 14 T1OUT, 15 GND, 16 VCC

## MAX480
designator U?
运放
pins: 1 hidden, 2, 3, 4 (power), 5 hidden, 6, 7 (power)

## MAX706
designator U?
pins: 1 ~{MR}, 2 VCC, 3 GND, 4 PFI, 5 ~{PFO}, 6 WDI, 7 ~{RESET}(RESET), 8 ~{WDO}

## MAX726
designator U?
pins: 1 FB, 2 Vc, 3 GND, 4 Vsw, 5 Vin

## MAX809
designator U?
复位芯片(电平复位)
pins: 1 GND, 2 ~{RST}, 3 VCC

## MAX810
designator U?
复位芯片(高电平复位)
pins: 1 GND, 2 RST, 3 VCC

## MAX823
designator U?
复位芯片
pins: 1 ~{RST}, 2 GND, 3 ~{MR}, 4 WDI, 5 VCC

## MAX824
designator U?
复位芯片
pins: 1 ~{RST}, 2 GND, 3 RST, 4 WDI, 5 VCC

## MAX825
designator U?
复位芯片
pins: 1 ~{RST}, 2 GND, 3 RST, 4 ~{MR}, 5 VCC

## MAX1482
designator ?
pins: 1 NC, 2 RD, 3 ~{RE}, 4 DZ, 5 DI, 6 GND, 7 GND, 8 NC, 9 Y, 10 Z, 11 B, 12 A, 13 NC, 14 VCC

## MAX3221
designator U?
集成块
pins: 1 ~{EN}, 2 C1+, 3 V+, 4 C1-, 5 C2+, 6 C2-, 7 V-, 8 R1IN, 9 R1OUT, 10 ~{INVALID}, 11 T1IN, 12 FORCEON, 13 T1OUT, 14 GND, 15 VCC, 16 ~{FORCEOFF}

## MAX3232CDR
designator U?  (value not drawn)
pins: 1 C1+, 2 V+, 3 C1-, 4 C2+, 5 C2-, 6 V-, 7 T2OUT, 8 R2IN, 9 R2OUT, 10 T2IN, 11 T1IN, 12 R1OUT, 13 R1IN, 14 T1OUT, 15 GND, 16 VCC

## MAX6675
designator U?
K型热电偶测量芯片
pins: 1 GND, 2 T-, 3 T+, 4 VCC, 5 SCK, 6 ~{CS}, 7 SO, 8 NC

## MAX6954
designator *
pins: 1 P0, 2 P1, 3 ~{CS}, 4 DOUT, 5 CLK, 6 DIN, 7 O0, 8 O1, 9 O2, 10 O3, 11 O4, 12 O5, 13 O6, 14 O7, 15 O8, 16 GND, 17 ISET, 18 GND, 19 V+, 20 OSC, 21 V+, 22 O9, 23 O10, 24 O11, 25 O12, 26 O13, 27 O14, 28 O15, 29 O16, 30 O17, 31 O18, 32 BLINK, 33 OSC_OUT, 34 P2, 35 P3, 36 P4

## MAX6955
designator *
pins: 1 P0, 2 P1, 3 AD0, 4 SDA, 5 SCL, 6 AD1, 7 O0, 8 O1, 9 O2, 10 O3, 11 O4, 12 O5, 13 O6, 14 O7, 15 O8, 16 GND, 17 ISET, 18 GND, 19 V+, 20 OSC, 21 V+, 22 O9, 23 O10, 24 O11, 25 O12, 26 O13, 27 O14, 28 O15, 29 O16, 30 O17, 31 O18, 32 BLINK, 33 OSC_OUT, 34 P2, 35 P3, 36 P4/~{IRQ}

## MAX7221
designator U?, comment MAX7221EWG
集成块
pins: 1 DIN (io), 2 DIG 0 (io), 3 DIG 4 (io), 4 GND (io), 5 DIG 6 (io), 6 DIG 2 (io), 7 DIG 3 (io), 8 DIG 7 (io), 9 GND (io), 10 DIG 5 (io), 11 DIG 1 (io), 12 LOAD(~{CS}) (io), 13 CLK (io), 14 SEG A (io), 15 SEG F (io), 16 SEG B (io), 17 SEG G (io), 18 ISET (io), 19 V+ (io), 20 SEG C (io), 21 SEG E (io), 22 SEG DP (io), 23 SEG D (io), 24 DOUT (io)

## MAX31855
designator IC?
pins: 1 GND, 2 T-, 3 T+, 4 Vcc, 5 SCK, 6 ~{CS}, 7 SO, 8 DNC

## MC1403
designator U?, comment FM24CL256
pins: 1 VIN, 2 VOUT, 3 GND, 4 NC, 5 NC, 6 NC, 7 NC, 8 NC

## MC14013
designator U?
part A pins: 1 Q (out), 2 ~{Q} (out), 3 CLK (in), 4 R (in), 5 D (in), 6 S (in), 7 GND (power) hidden to GND, 14 VCC (power) hidden to VCC
part B pins: 7 GND (power) hidden to GND, 8 S (in), 9 D (in), 10 R (in), 11 CLK (in), 12 ~{Q} (out), 13 Q (out), 14 VCC (power) hidden to VCC

## MC33072
designator U?
part A pins: 1, 2, 3, 4, 8
part B pins: 5, 6, 7

## MC34063A
designator U?
pins: 1 SC, 2 SE, 3 TC, 4 GND, 5 CII, 6 VCC, 7 IP, 8 DC

## MC34071
designator U?
part A pins: 1, 2, 3, 4, 8
part B pins: 5, 6, 7

## MC34072
designator U?
part A pins: 1, 2, 3, 4, 8
part B pins: 5, 6, 7

## MC34151
designator U?
pins: 1 N.C, 2 IN1, 3 GND, 4 IN2, 5 O2, 6 VCC, 7 O1, 8 N.C

## MCP49X2
designator U?
数据转换器(DA)
pins: 1 VDD, 2 NC, 3 ~{CS}, 4 SCK, 5 SDI, 6 NC, 7 NC, 8 ~{LDAC}, 9 ~{SHDN}, 10 VoutB, 11 VREFB, 12 Vss, 13 VREFA, 14 VoutA

## MCP2515
designator U?
集成块
pins: 1 TXCAN, 2 RXCAN, 3 CLKOUT/SOF, 4 ~{TX0RTS}, 5 ~{TX1RTS}, 6 ~{TX2RTS}, 7 OSC2, 8 OSC1, 9 VSS, 10 ~{RX1BF}, 11 ~{RX0BF}, 12 ~{INT}, 13 SCK, 14 SI, 15 SO, 16 ~{CS}, 17 ~{RESET}, 18 VDD

## MCP3204
designator U?
集成块
pins: 1 CH0, 2 CH1, 3 CH2, 4 CH3, 5 NC, 6 NC, 7 DGND, 8 CS, 9 DIN, 10 DOUT, 11 CLK, 12 AGND, 13 VREF, 14 VCC

## MCP3913
designator U?
集成块
footprint DIP14 (IC)
pins: 1 AVDD, 2 CH0+, 3 CH0-, 4 CH1-, 5 CH1+, 6 CH2+, 7 CH2-, 8 CH3-, 9 CH3+, 10 CH4+, 11 CH4-, 12 CH5-, 13 CH5+, 14 REFIN/OUT+, 15 REFIN-, 16 AGND, 17 DGND, 18 ~{DR}, 19 NC, 20 DGND, 21 OSC1, 22 OSC2, 23 ~{CS}, 24 SCK, 25 SDO, 26 SDI, 27 ~{RESET}, 28 DVDD

## MCP6004
designator U?
放大器
part A pins: 1, 2, 3, 4, 11
part B pins: 5, 6, 7
part C pins: 8, 9, 10
part D pins: 12, 13, 14
2 alternate drawings of the same symbol

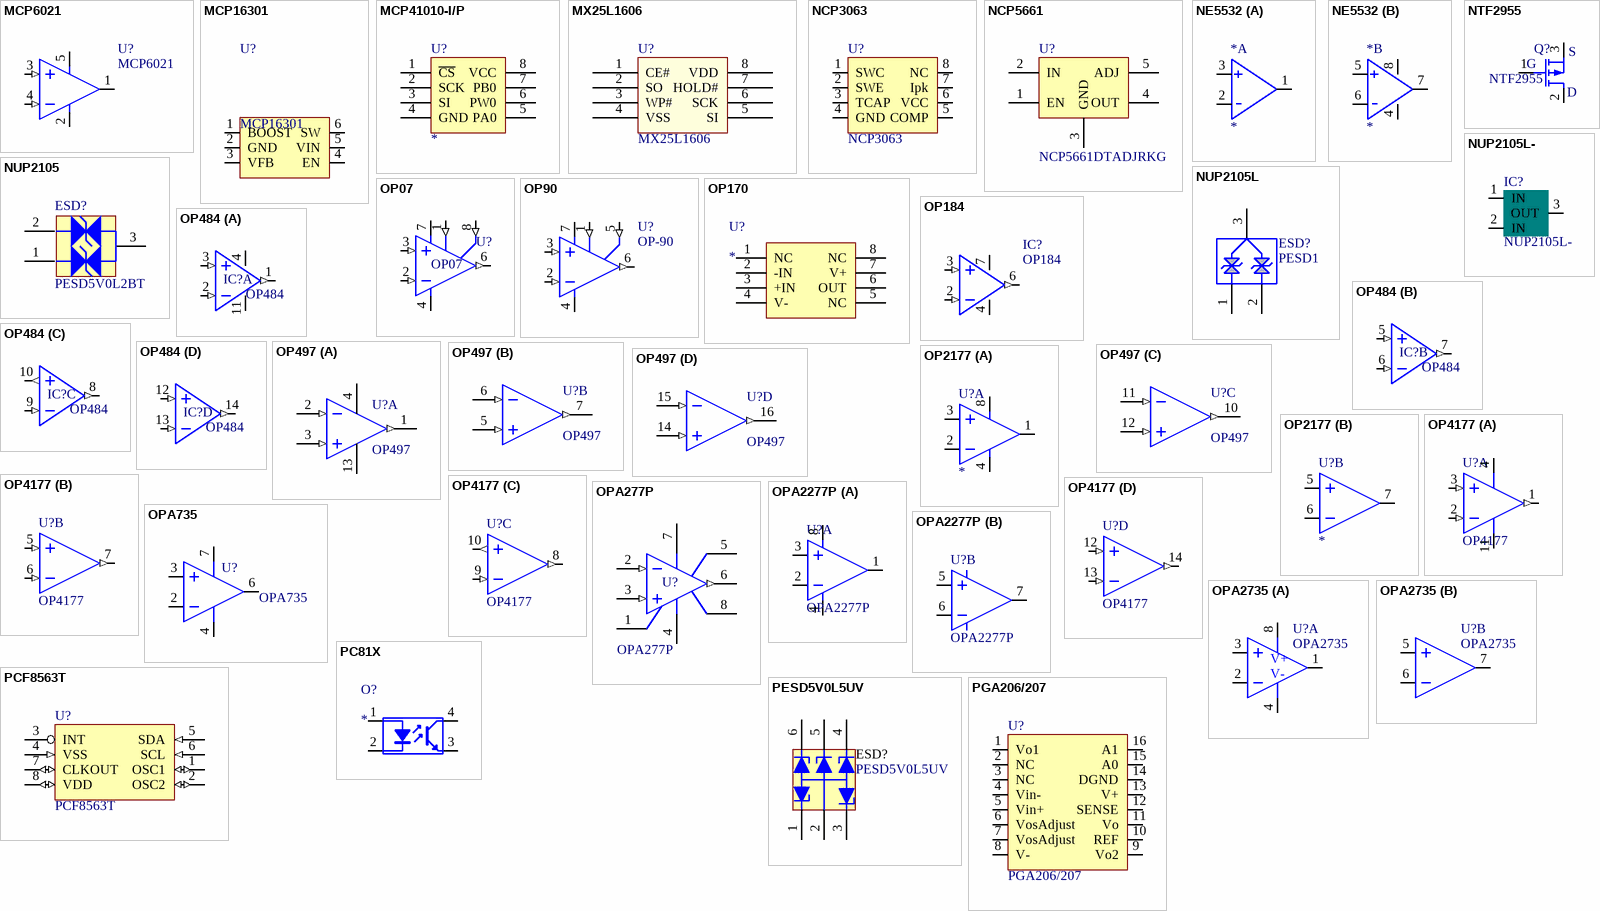
[diagram p14: symbols MCP6021 to PGA206/207]

## MCP6021
designator U?
pins: 1 (oc), 2 VSS (power), 3 Vin+ (in), 4 Vin- (in), 5 VDD (power)

## MCP16301
designator U?
降压开关稳压器
pins: 1 BOOST, 2 GND, 3 VFB, 4 EN, 5 VIN, 6 SW
1 alternate drawing of the same symbol

## MCP41010-I/P
designator U?
数字电位器
pins: 1 ~{CS}, 2 SCK, 3 SI, 4 GND, 5 PA0, 6 PW0, 7 PB0, 8 VCC

## MX25L1606
designator U?
pins: 1 CE#, 2 SO, 3 WP#, 4 VSS, 5 SI, 6 SCK, 7 HOLD#, 8 VDD

## NCP3063
designator U?
开关电源芯片
pins: 1 SWC, 2 SWE, 3 TCAP, 4 GND, 5 COMP, 6 VCC, 7 Ipk, 8 NC

## NCP5661
designator U?, comment NCP5661DTADJRKG
IC
pins: 1 EN, 2 IN, 3 GND, 4 OUT, 5 ADJ

## NE5532
designator *
part A pins: 1, 2, 3
part B pins: 4, 5, 6, 7, 8

## NTF2955
designator Q?
MOSFET-P-Channel; Published: 8-Jun-2000; LatestRevisionDate: 17-Jul-2002; LatestRevisionNote: Re-released for DXP Platform.; Publisher: Altium Limited
pins: 1 G, 2 D, 3 S

## NUP2105
designator ESD?, comment PESD5V0L2BT
pins: 1, 2, 3
2 alternate drawings of the same symbol

## NUP2105L
designator ESD?, comment PESD1
TVS protect
pins: 1, 2, 3
2 alternate drawings of the same symbol

## NUP2105L-
designator IC?
pins: 1 IN, 2 IN, 3 OUT

## OP07
designator U?
IC Amplifier
pins: 1 (in), 2 (in), 3 (in), 4 (power), 6 (out), 7 (power), 8 (in)

## OP90
designator U?, comment OP-90
Precision Low-Voltage Micropower  Operational Amplifier
pins: 1 (in), 2 (in), 3 (in), 4 (power), 5 (in), 6 (out), 7 (power)

## OP170
designator U?
pins: 1 NC, 2 -IN, 3 +IN, 4 V-, 5 NC, 6 OUT, 7 V+, 8 NC

## OP184
designator IC?
pins: 2 - (in), 3 + (in), 4, 6 (out), 7

## OP484
designator IC?
运放
part A pins: 1 (out), 2 (in), 3 (in), 4 (power), 11 (power)
part B pins: 5 (in), 6 (in), 7 (out)
part C pins: 8 (out), 9 (in), 10 (out)
part D pins: 12 (in), 13 (in), 14 (out)

## OP497
designator U?
运放
part A pins: 1 (out), 2 (in), 3 (in), 4, 13
part B pins: 5 (in), 6 (in), 7 (out)
part C pins: 10 (out), 11 (in), 12 (in)
part D pins: 14 (in), 15 (in), 16 (out)

## OP2177
designator U?
运放
part A pins: 1, 2, 3, 4, 8
part B pins: 5, 6, 7

## OP4177
designator U?
运放
part A pins: 1 (out), 2 (in), 3 (in), 4 (power), 11 (power)
part B pins: 5 (in), 6 (in), 7 (out)
part C pins: 8 (out), 9 (in), 10 (out)
part D pins: 12 (in), 13 (in), 14 (out)

## OPA277P
designator U?
Very Low Offset Single Bipolar Operational Amplifier; Note: Pins 5 is Not Connected; Published: 24-Aug-2001; LatestRevisionDate: 06-Jun-2005; LatestRevisionNote: Stylized 3D Model Added.; DatasheetVersion: Oct-1997; PackageReference: DIP8; Publisher: Altium Limited; PackageDescription: DIP; 8 Leads; Row Spacing 7.62 mm; Pitch 2.54 mm; Code_JEDEC: MO-001-AN; ComponentLink1Description: Manufacturer Link; ComponentLink1URL: http://www.st.com/; ComponentLink2Description: Datasheet; ComponentLink2URL: http://www.st.com/stonline/products/literature/ds/2184/op07.pdf
pins: 1 NULL1, 2 IN- (in), 3 IN+ (in), 4 V- (power), 5 NC, 6 OUT (out), 7 V+ (power), 8 NULL2

## OPA735
designator U?
AD8597
pins: 2, 3, 4 V- (power), 6, 7 (power)

## OPA2277P
designator U?
集成电路
part A pins: 1, 2, 3, 4, 8
part B pins: 5, 6, 7

## OPA2735
designator U?
OPA2188 运放
part A pins: 1 OUTA, 2 INA-, 3 INA+, 4 V- (power), 8 V+ (power)
part B pins: 5 INB+, 6 INB-, 7 OUTB

## PC81X
designator O?
隔离器件
pins: 1, 2, 3, 4

## PCF8563T
designator U?
pins: 1 OSC1 (io), 2 OSC2 (io), 3 INT, 4 VSS (in), 5 SDA (in), 6 SCL (in), 7 CLKOUT (io), 8 VDD (io)
2 alternate drawings of the same symbol

## PESD5V0L5UV
designator ESD?
pins: 1, 2, 3, 4, 5, 6
2 alternate drawings of the same symbol

## PGA206/207
designator U?
高速可编程仪用运放
pins: 1 Vo1, 2 NC, 3 NC, 4 Vin-, 5 Vin+, 6 VosAdjust, 7 VosAdjust, 8 V-, 9 Vo2, 10 REF, 11 Vo, 12 SENSE, 13 V+, 14 DGND, 15 A0, 16 A1

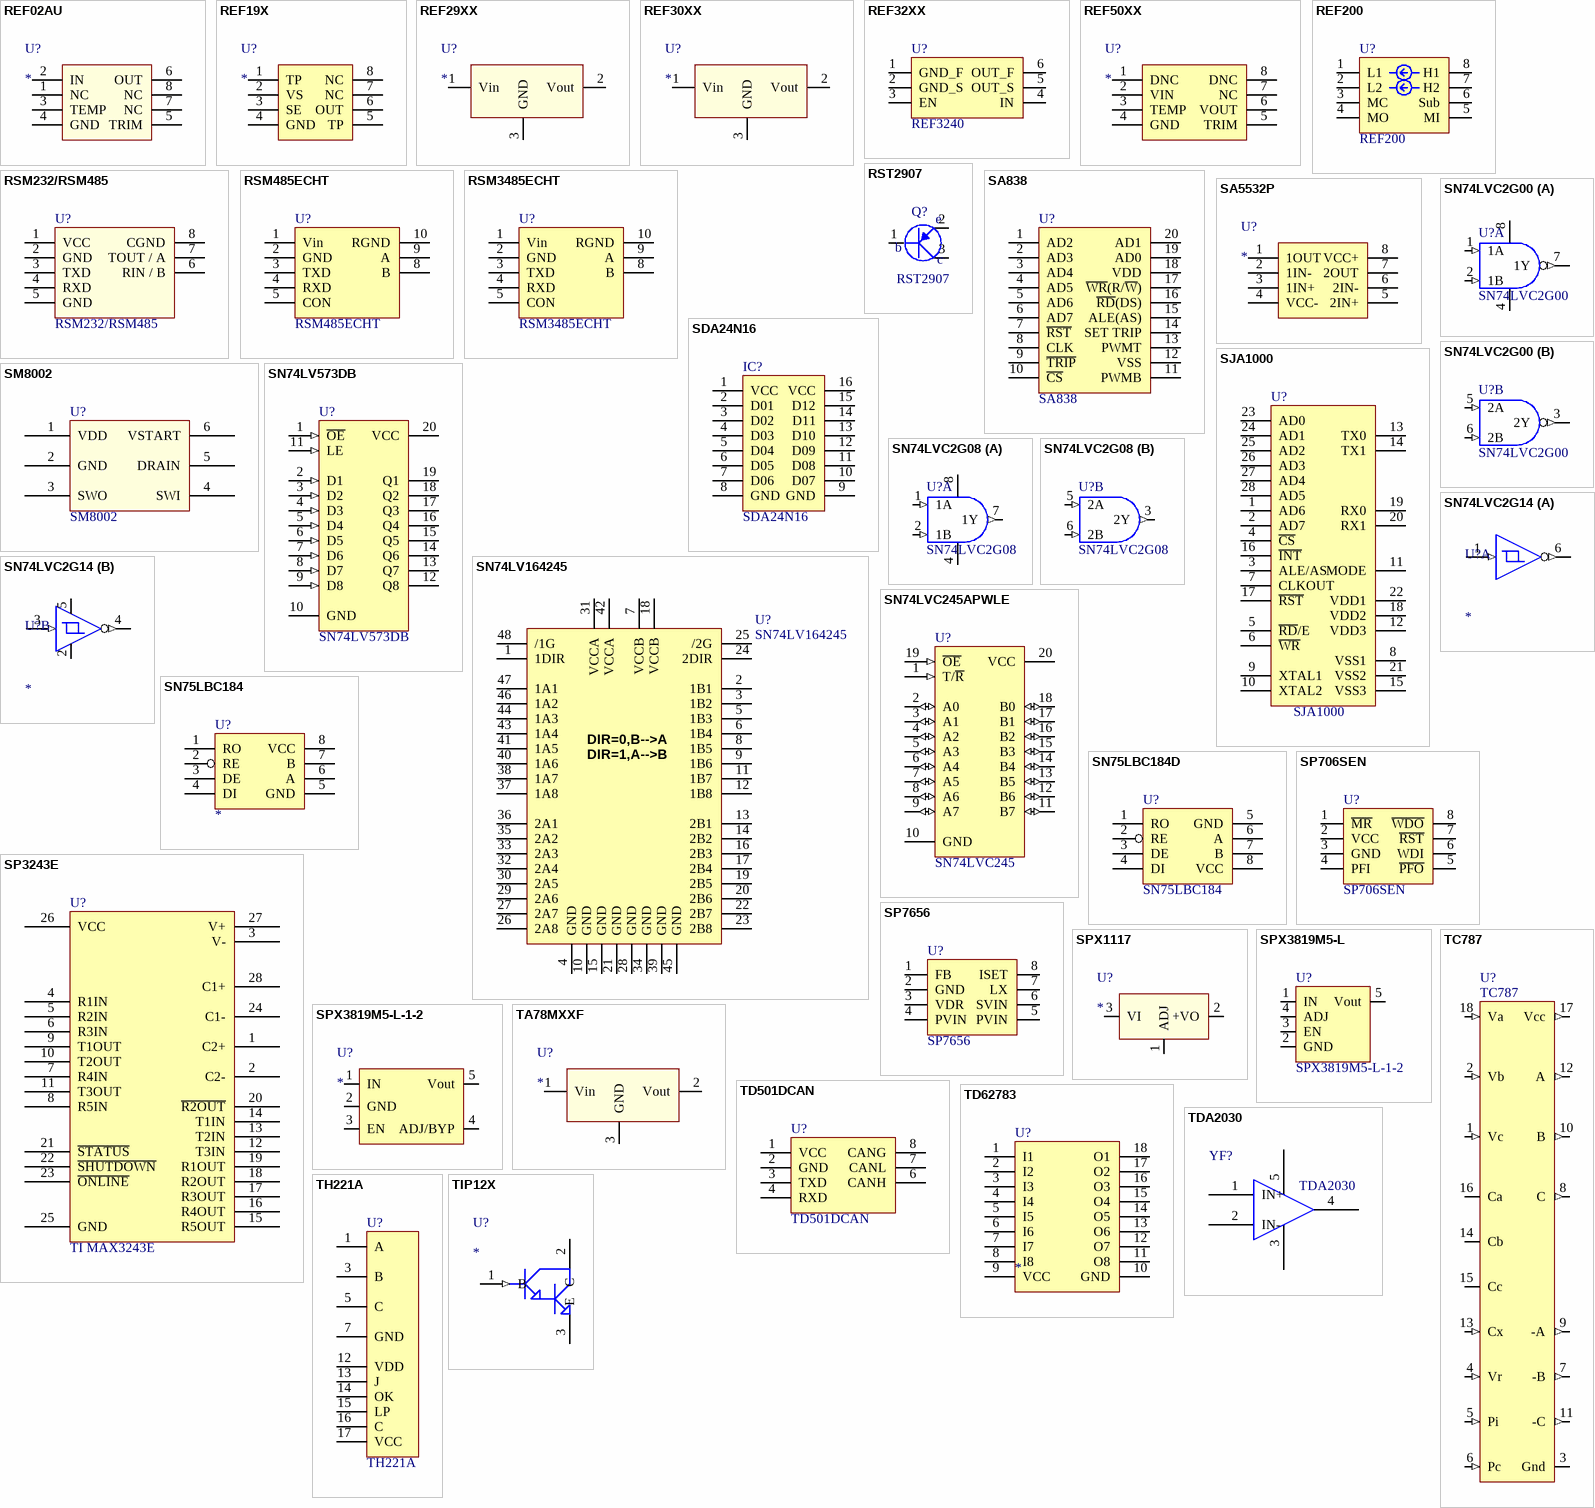
[diagram p15: symbols REF02AU to TIP12X]

## REF02AU
designator U?
电源管理器件
pins: 1 NC, 2 IN (power), 3 TEMP, 4 GND (power), 5 TRIM, 6 OUT (power), 7 NC, 8 NC

## REF19X
designator U?
电源管理器件
pins: 1 TP, 2 VS, 3 SE, 4 GND, 5 TP, 6 OUT, 7 NC, 8 NC

## REF29XX
designator U?
电源管理器件
pins: 1 Vin, 2 Vout, 3 GND

## REF30XX
designator U?
电源管理器件
pins: 1 Vin, 2 Vout, 3 GND

## REF32XX
designator U?, comment REF3240
4ppm/c,0.001%,REF3212[20,25,30,33,40]
pins: 1 GND_F, 2 GND_S, 3 EN, 4 IN, 5 OUT_S, 6 OUT_F

## REF50XX
designator U?
电源管理器件
pins: 1 DNC, 2 VIN, 3 TEMP, 4 GND, 5 TRIM, 6 VOUT, 7 NC, 8 DNC

## REF200
designator U?
100uA电流源
pins: 1 L1, 2 L2, 3 MC, 4 MO, 5 MI, 6 Sub, 7 H2, 8 H1

## RSM232/RSM485
designator U?
RSM232 / RSM485
pins: 1 VCC, 2 GND, 3 TXD, 4 RXD, 5 GND, 6 RIN / B, 7 TOUT / A, 8 CGND

## RSM485ECHT
designator U?
RS485收发模块,5V供电
pins: 1 Vin, 2 GND, 3 TXD, 4 RXD, 5 CON, 8 B, 9 A, 10 RGND

## RSM3485ECHT
designator U?
3.3V供电
pins: 1 Vin, 2 GND, 3 TXD, 4 RXD, 5 CON, 8 B, 9 A, 10 RGND

## RST2907
designator Q?
三极管
pins: 1 B, 2 E, 3 C
text: e; b; c

## SA838
designator U?
pins: 1 AD2, 2 AD3, 3 AD4, 4 AD5, 5 AD6, 6 AD7, 7 ~{RST}, 8 CLK, 9 ~{TRIP}, 10 ~{CS}, 11 PWMB, 12 VSS, 13 PWMT, 14 SET TRIP, 15 ALE(AS), 16 ~{RD}(DS), 17 ~{WR}(R/~{W}), 18 VDD, 19 AD0, 20 AD1

## SA5532P
designator U?
pins: 1 1OUT, 2 1IN-, 3 1IN+, 4 VCC-, 5 2IN+, 6 2IN-, 7 2OUT, 8 VCC+

## SDA24N16
designator IC?
pins: 1 VCC, 2 D01, 3 D02, 4 D03, 5 D04, 6 D05, 7 D06, 8 GND, 9 GND, 10 D07, 11 D08, 12 D09, 13 D10, 14 D11, 15 D12, 16 VCC

## SJA1000
designator U?
pins: 1 AD6, 2 AD7, 3 ALE/AS, 4 ~{CS}, 5 ~{RD}/E, 6 ~{WR}, 7 CLKOUT, 8 VSS1, 9 XTAL1, 10 XTAL2, 11 MODE, 12 VDD3, 13 TX0, 14 TX1, 15 VSS3, 16 ~{INT}, 17 ~{RST}, 18 VDD2, 19 RX0, 20 RX1, 21 VSS2, 22 VDD1, 23 AD0, 24 AD1, 25 AD2, 26 AD3, 27 AD4, 28 AD5

## SM8002
designator U?
pins: 1 VDD, 2 GND, 3 SWO, 4 SWI, 5 DRAIN, 6 VSTART

## SN74LV573DB
designator U?
Octal Transparent D-Type Latch with 3-State Outputs; ComponentAvailability: Obsolete; Published: 8-Jun-2000; LatestRevisionDate: 04-Mar-2005; LatestRevisionNote: Stylized 3D Model Added.; DatasheetVersion: Apr-1996; PackageVersion: May-1999; PackageReference: DB020; Publisher: Altium Limited; PackageDescription: SSOP, Plastic; 20 Leads; Body Width 5.3 mm; Pitch 0.65 mm; Code_JEDEC: MO-150-AE; ComponentLink1Description: Manufacturer Link; ComponentLink1URL: http://www.ti.com/; ComponentLink2Description: Datasheet; ComponentLink2URL: http://www-s.ti.com/sc/ds/sn74lv573.pdf
pins: 1 ~{OE} (in), 2 D1 (in), 3 D2 (in), 4 D3 (in), 5 D4 (in), 6 D5 (in), 7 D6 (in), 8 D7 (in), 9 D8 (in), 10 GND (power), 11 LE (in), 12 Q8 (hiz), 13 Q7 (hiz), 14 Q6 (hiz), 15 Q5 (hiz), 16 Q4 (hiz), 17 Q3 (hiz), 18 Q2 (hiz), 19 Q1 (hiz), 20 VCC (power)
2 alternate drawings of the same symbol

## SN74LV164245
designator U?
pins: 1 1DIR, 2 1B1, 3 1B2, 4 GND, 5 1B3, 6 1B4, 7 VCCB, 8 1B5, 9 1B6, 10 GND, 11 1B7, 12 1B8, 13 2B1, 14 2B2, 15 GND, 16 2B3, 17 2B4, 18 VCCB, 19 2B5, 20 2B6, 21 GND, 22 2B7, 23 2B8, 24 2DIR, 25 /2G, 26 2A8, 27 2A7, 28 GND, 29 2A6, 30 2A5, 31 VCCA, 32 2A4, 33 2A3, 34 GND, 35 2A2, 36 2A1, 37 1A8, 38 1A7, 39 GND, 40 1A6, 41 1A5, 42 VCCA, 43 1A4, 44 1A3, 45 GND, 46 1A2, 47 1A1, 48 /1G
text: DIR=0,B-->A; DIR=1,A-->B

## SN74LVC2G00
designator U?
part A pins: 1 1A (in), 2 1B (in), 4 G (power), 7 1Y (out), 8 V (power)
part B pins: 3 2Y (out), 5 2A (in), 6 2B (in)
2 alternate drawings of the same symbol

## SN74LVC2G08
designator U?
part A pins: 1 1A (in), 2 1B (in), 4 G (power) hidden to G, 7 1Y (out), 8 V (power) hidden to V
part B pins: 3 2Y (out), 5 2A (in), 6 2B (in)
2 alternate drawings of the same symbol

## SN74LVC2G14
designator U?
part A pins: 1 (in), 6 (out)
part B pins: 2 (power), 3 (in), 4 (out), 5 (power)

## SN74LVC245APWLE
designator U?, comment SN74LVC245
Octal Bus Transceiver with 3-State Outputs; ComponentAvailability: Obsolete; Published: 8-Jun-2000; LatestRevisionDate: 04-Mar-2005; LatestRevisionNote: Stylized 3D Model Added.; DatasheetVersion: Jun-1998; PackageVersion: Feb-1999; PackageReference: PW020; Publisher: Altium Limited; PackageDescription: Shrink Small Outline; 20 Leads; Body Width 4.4 mm; Pitch 0.65 mm; ComponentLink1Description: Manufacturer Link; ComponentLink1URL: http://www.ti.com/; ComponentLink2Description: Datasheet; ComponentLink2URL: http://www-s.ti.com/sc/ds/sn74lvc245a.pdf
pins: 1 T/~{R} (in), 2 A0 (io), 3 A1 (io), 4 A2 (io), 5 A3 (io), 6 A4 (io), 7 A5 (io), 8 A6 (io), 9 A7 (io), 10 GND (power), 11 B7 (io), 12 B6 (io), 13 B5 (io), 14 B4 (io), 15 B3 (io), 16 B2 (io), 17 B1 (io), 18 B0 (io), 19 ~{OE} (in), 20 VCC (power)
2 alternate drawings of the same symbol

## SN75LBC184
designator U?
集成块
pins: 1 RO, 2 RE, 3 DE, 4 DI, 5 GND, 6 A, 7 B, 8 VCC

## SN75LBC184D
designator U?, comment SN75LBC184
footprint DIP8
footprint SO-8
footprint SO8 (贴片-IC)
pins: 1 RO, 2 RE, 3 DE, 4 DI, 5 GND, 6 A, 7 B, 8 VCC

## SP706SEN
designator U?
pins: 1 ~{MR}, 2 VCC, 3 GND, 4 PFI, 5 ~{PFO}, 6 WDI, 7 ~{RST}, 8 ~{WDO}

## SP3243E
designator U?, comment TI MAX3243E
pins: 1 C2+, 2 C2-, 3 V-, 4 R1IN, 5 R2IN, 6 R3IN, 7 R4IN, 8 R5IN, 9 T1OUT, 10 T2OUT, 11 T3OUT, 12 T3IN, 13 T2IN, 14 T1IN, 15 R5OUT, 16 R4OUT, 17 R3OUT, 18 R2OUT, 19 R1OUT, 20 ~{R2OUT}, 21 ~{STATUS}, 22 ~{SHUTDOWN}, 23 ~{ONLINE}, 24 C1-, 25 GND, 26 VCC, 27 V+, 28 C1+
2 alternate drawings of the same symbol

## SP7656
designator U?
pins: 1 FB, 2 GND, 3 VDR, 4 PVIN, 5 PVIN, 6 SVIN, 7 LX, 8 ISET

## SPX1117
designator U?
电源管理器件
pins: 1 ADJ, 2 +VO, 3 VI

## SPX3819M5-L
designator U?, comment SPX3819M5-L-1-2
稳压芯片LDO
pins: 1 IN, 2 GND, 3 EN, 4 ADJ, 5 Vout

## SPX3819M5-L-1-2
designator U?
输出1.2V
pins: 1 IN, 2 GND, 3 EN, 4 ADJ/BYP, 5 Vout

## TA78MXXF
designator U?
电源管理器件
pins: 1 Vin, 2 Vout, 3 GND

## TC787
designator U?
pins: 1 Vc (in), 2 Vb (in), 3 Gnd, 4 Vr (in), 5 Pi (in), 6 Pc (in), 7 -B (out), 8 C (out), 9 -A (out), 10 B (out), 11 -C (out), 12 A (out), 13 Cx (in), 14 Cb, 15 Cc, 16 Ca, 17 Vcc (out), 18 Va (in)

## TD501DCAN
designator U?
CAN通讯
pins: 1 VCC, 2 GND, 3 TXD, 4 RXD, 6 CANH, 7 CANL, 8 CANG
2 alternate drawings of the same symbol

## TD62783
designator U?
DA转换芯片
pins: 1 I1, 2 I2, 3 I3, 4 I4, 5 I5, 6 I6, 7 I7, 8 I8, 9 VCC, 10 GND, 11 O8, 12 O7, 13 O6, 14 O5, 15 O4, 16 O3, 17 O2, 18 O1

## TDA2030
designator YF?
pins: 1 IN+, 2 IN-, 3, 4, 5 V

## TH221A
designator U?
不需零线的三相交流源线序检测保护器集成芯片
pins: 1 A, 3 B, 5 C, 7 GND, 12 VDD, 13 J, 14 OK, 15 LP, 16 C, 17 VCC

## TIP12X
designator U?
电源管理器件
pins: 1 B (in), 2 C, 3 E

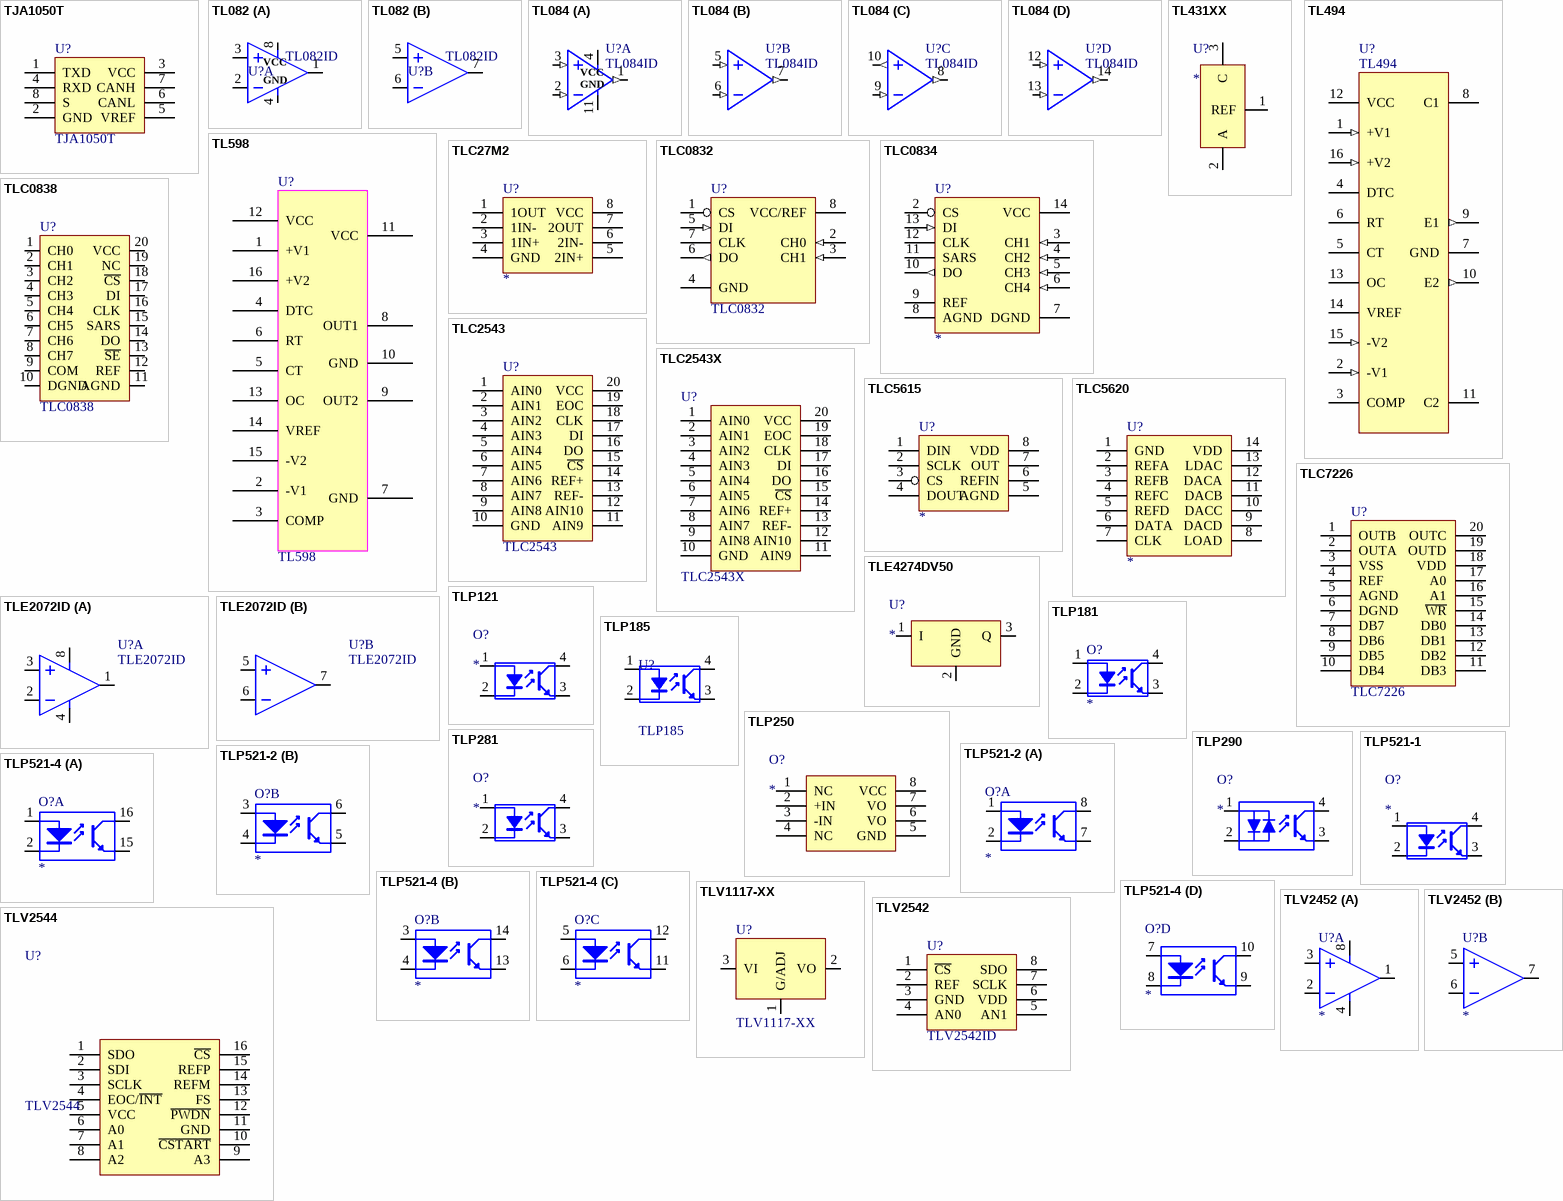
[diagram p16: symbols TJA1050T to TLV2544]

## TJA1050T
designator U?
集成块
pins: 1 TXD, 2 GND, 3 VCC, 4 RXD, 5 VREF, 6 CANL, 7 CANH, 8 S

## TL082
designator U?, comment TL082ID
运放
part A pins: 1, 2, 3, 4, 8
part B pins: 5, 6, 7
part A text: VCC; GND

## TL084
designator U?, comment TL084ID
运放
part A pins: 1 (out), 2 (in), 3 (in), 4 VCC (power), 11 VSS (power)
part B pins: 5 (in), 6 (in), 7 (out)
part C pins: 8 (out), 9 (in), 10 (out)
part D pins: 12 (in), 13 (in), 14 (out)
2 alternate drawings of the same symbol
part A text: GND

## TL431XX
designator U?
电源管理器件
pins: 1 REF, 2 A, 3 C

## TL494
designator U?
pins: 1 +V1 (in), 2 -V1 (in), 3 COMP, 4 DTC, 5 CT, 6 RT, 7 GND (power), 8 C1, 9 E1 (out), 10 E2 (out), 11 C2, 12 VCC (power), 13 OC, 14 VREF, 15 -V2 (in), 16 +V2 (in)

## TL598
designator U?
pins: 1 +V1, 2 -V1, 3 COMP, 4 DTC, 5 CT, 6 RT, 7 GND, 8 OUT1, 9 OUT2, 10 GND, 11 VCC, 12 VCC, 13 OC, 14 VREF, 15 -V2, 16 +V2

## TLC27M2
designator U?
pins: 1 1OUT, 2 1IN-, 3 1IN+, 4 GND, 5 2IN+, 6 2IN-, 7 2OUT, 8 VCC

## TLC0832
designator U?
AD转换芯片
pins: 1 CS (oc), 2 CH0 (in), 3 CH1 (in), 4 GND (power), 5 DI (in), 6 DO (out), 7 CLK, 8 VCC/REF (power)

## TLC0834
designator U?
AD转换芯片
pins: 2 CS (oc), 3 CH1 (in), 4 CH2 (in), 5 CH3 (in), 6 CH4 (in), 7 DGND (power), 8 AGND (power), 9 REF, 10 DO (out), 11 SARS, 12 CLK, 13 DI (in), 14 VCC (power)

## TLC0838
designator U?
AD转换芯片
pins: 1 CH0, 2 CH1, 3 CH2, 4 CH3, 5 CH4, 6 CH5, 7 CH6, 8 CH7, 9 COM, 10 DGND, 11 AGND, 12 REF, 13 ~{SE}, 14 DO, 15 SARS, 16 CLK, 17 DI, 18 ~{CS}, 19 NC, 20 VCC

## TLC2543
designator U?
AD转换芯片
pins: 1 AIN0, 2 AIN1, 3 AIN2, 4 AIN3, 5 AIN4, 6 AIN5, 7 AIN6, 8 AIN7, 9 AIN8, 10 GND, 11 AIN9, 12 AIN10, 13 REF-, 14 REF+, 15 ~{CS}, 16 DO, 17 DI, 18 CLK, 19 EOC, 20 VCC

## TLC2543X
designator U?
数据转换器(AD)
pins: 1 AIN0, 2 AIN1, 3 AIN2, 4 AIN3, 5 AIN4, 6 AIN5, 7 AIN6, 8 AIN7, 9 AIN8, 10 GND, 11 AIN9, 12 AIN10, 13 REF-, 14 REF+, 15 ~{CS}, 16 DO, 17 DI, 18 CLK, 19 EOC, 20 VCC

## TLC5615
designator U?
AD转换芯片
pins: 1 DIN, 2 SCLK, 3 CS, 4 DOUT, 5 AGND, 6 REFIN, 7 OUT, 8 VDD

## TLC5620
designator U?
DA转换芯片
pins: 1 GND, 2 REFA, 3 REFB, 4 REFC, 5 REFD, 6 DATA, 7 CLK, 8 LOAD, 9 DACD, 10 DACC, 11 DACB, 12 DACA, 13 LDAC, 14 VDD

## TLC7226
designator U?
DA转换芯片
pins: 1 OUTB, 2 OUTA, 3 VSS, 4 REF, 5 AGND, 6 DGND, 7 DB7, 8 DB6, 9 DB5, 10 DB4, 11 DB3, 12 DB2, 13 DB1, 14 DB0, 15 ~{WR}, 16 A1, 17 A0, 18 VDD, 19 OUTD, 20 OUTC

## TLE2072ID
designator U?
part A pins: 1, 2, 3, 4, 8
part B pins: 5, 6, 7

## TLE4274DV50
designator U?
电源管理器件
pins: 1 I, 2 GND, 3 Q

## TLP121
designator O?
隔离器件
pins: 1, 2, 3, 4

## TLP181
designator O?
隔离器件
footprint TLP121
pins: 1, 2, 3, 4

## TLP185
designator U?
隔离器件
pins: 1, 2, 3, 4
2 alternate drawings of the same symbol

## TLP250
designator O?
隔离器件
pins: 1 NC, 2 +IN, 3 -IN, 4 NC, 5 GND, 6 VO, 7 VO, 8 VCC

## TLP281
designator O?
隔离器件
pins: 1, 2, 3, 4

## TLP290
designator O?
隔离器件
pins: 1 AK, 2 AK, 3 E, 4 C

## TLP521-1
designator O?
隔离器件
pins: 1, 2, 3, 4

## TLP521-2
designator O?
隔离器件
part A pins: 1 A, 2 K, 7 E, 8 C
part B pins: 3 A, 4 K, 5 E, 6 C

## TLP521-4
designator O?
隔离器件
part A pins: 1 A, 2 K, 15 E, 16 C
part B pins: 3 A, 4 K, 13 E, 14 C
part C pins: 5 A, 6 K, 11 E, 12 C
part D pins: 7 A, 8 K, 9 E, 10 C

## TLV1117-XX
designator U?
电源管理器件
pins: 1 G/ADJ, 2 VO, 3 VI

## TLV2452
designator U?
运放
part A pins: 1, 2, 3, 4, 8
part B pins: 5, 6, 7

## TLV2542
designator U?, comment TLV2542ID
数据转换器(AD)
pins: 1 ~{CS}, 2 REF, 3 GND, 4 AN0, 5 AN1, 6 VDD, 7 SCLK, 8 SDO

## TLV2544
designator U?
数据转换器(AD)
pins: 1 SDO, 2 SDI, 3 SCLK, 4 EOC/~{INT}, 5 VCC, 6 A0, 7 A1, 8 A2, 9 A3, 10 ~{CSTART}, 11 GND, 12 ~{PWDN}, 13 FS, 14 REFM, 15 REFP, 16 ~{CS} (power)

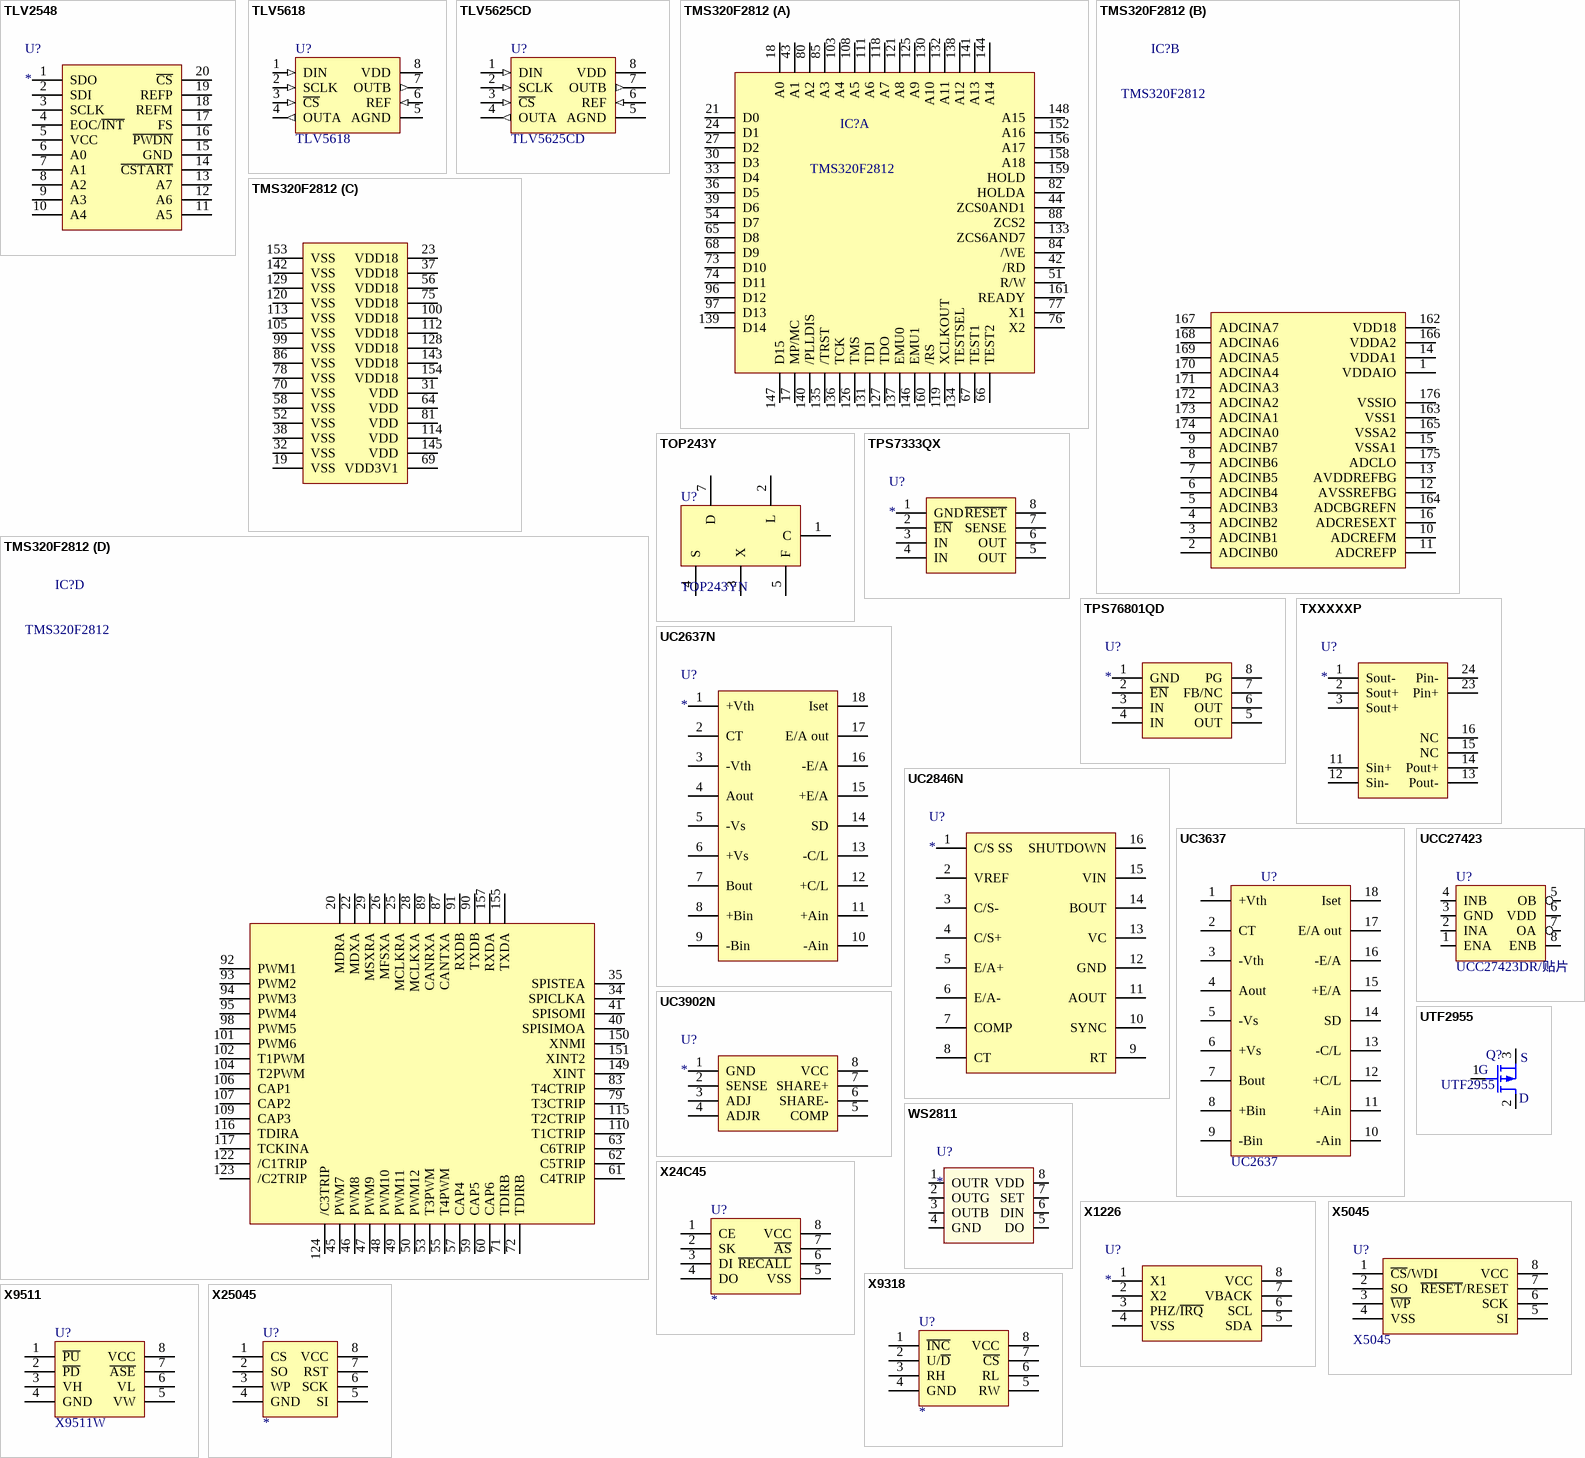
[diagram p17: symbols TLV2548 to X25045]

## TLV2548
designator U?
数据转换器(AD)
pins: 1 SDO, 2 SDI, 3 SCLK, 4 EOC/~{INT}, 5 VCC, 6 A0, 7 A1, 8 A2, 9 A3, 10 A4 (power), 11 A5, 12 A6, 13 A7, 14 ~{CSTART}, 15 GND, 16 ~{PWDN}, 17 FS, 18 REFM, 19 REFP, 20 ~{CS} (power)

## TLV5618
designator U?
集成块
pins: 1 DIN (in), 2 SCLK (in), 3 ~{CS} (in), 4 OUTA (out), 5 AGND, 6 REF (in), 7 OUTB (out), 8 VDD (power)

## TLV5625CD
designator U?
集成块
pins: 1 DIN (in), 2 SCLK (in), 3 ~{CS} (in), 4 OUTA (out), 5 AGND, 6 REF (in), 7 OUTB (out), 8 VDD (power)

## TMS320F2812
designator IC?
part A pins: 17 MP/MC, 18 A0, 21 D0, 24 D1, 27 D2, 30 D3, 33 D4, 36 D5, 39 D6, 42 /RD, 43 A1, 44 ZCS0AND1, 51 R/W, 54 D7, 65 D8, 66 TEST2, 67 TEST1, 68 D9, 73 D10, 74 D11, 76 X2, 77 X1, 80 A2, 82 HOLDA, 84 /WE, 85 A3, 88 ZCS2, 96 D12, 97 D13, 103 A4, 108 A5, 111 A6, 118 A7, 119 XCLKOUT, 121 A8, 125 A9, 126 TMS, 127 TDO, 130 A10, 131 TDI, 132 A11, 133 ZCS6AND7, 134 TESTSEL, 135 /TRST, 136 TCK, 137 EMU0, 138 A12, 139 D14, 140 /PLLDIS, 141 A13, 144 A14, 146 EMU1, 147 D15, 148 A15, 152 A16, 156 A17, 158 A18, 159 HOLD, 160 /RS, 161 READY
part B pins: 1 VDDAIO, 2 ADCINB0, 3 ADCINB1, 4 ADCINB2, 5 ADCINB3, 6 ADCINB4, 7 ADCINB5, 8 ADCINB6, 9 ADCINB7, 10 ADCREFM, 11 ADCREFP, 12 AVSSREFBG, 13 AVDDREFBG, 14 VDDA1, 15 VSSA1, 16 ADCRESEXT, 162 VDD18, 163 VSS1, 164 ADCBGREFN, 165 VSSA2, 166 VDDA2, 167 ADCINA7, 168 ADCINA6, 169 ADCINA5, 170 ADCINA4, 171 ADCINA3, 172 ADCINA2, 173 ADCINA1, 174 ADCINA0, 175 ADCLO, 176 VSSIO
part C pins: 19 VSS, 23 VDD18, 31 VDD, 32 VSS, 37 VDD18, 38 VSS, 52 VSS, 56 VDD18, 58 VSS, 64 VDD, 69 VDD3V1, 70 VSS, 75 VDD18, 78 VSS, 81 VDD, 86 VSS, 99 VSS, 100 VDD18, 105 VSS, 112 VDD18, 113 VSS, 114 VDD, 120 VSS, 128 VDD18, 129 VSS, 142 VSS, 143 VDD18, 145 VDD, 153 VSS, 154 VDD18
part D pins: 20 MDRA, 22 MDXA, 25 MCLKRA, 26 MFSXA, 28 MCLKXA, 29 MSXRA, 34 SPICLKA, 35 SPISTEA, 40 SPISIMOA, 41 SPISOMI, 45 PWM7, 46 PWM8, 47 PWM9, 48 PWM10, 49 PWM11, 50 PWM12, 53 T3PWM, 55 T4PWM, 57 CAP4, 59 CAP5, 60 CAP6, 61 C4TRIP, 62 C5TRIP, 63 C6TRIP, 71 TDIRB, 72 TDIRB, 79 T3CTRIP, 83 T4CTRIP, 87 CANTXA, 89 CANRXA, 90 TXDB, 91 RXDB, 92 PWM1, 93 PWM2, 94 PWM3, 95 PWM4, 98 PWM5, 101 PWM6, 102 T1PWM, 104 T2PWM, 106 CAP1, 107 CAP2, 109 CAP3, 110 T1CTRIP, 115 T2CTRIP, 116 TDIRA, 117 TCKINA, 122 /C1TRIP, 123 /C2TRIP, 124 /C3TRIP, 149 XINT, 150 XNMI, 151 XINT2, 155 TXDA, 157 RXDA

## TOP243Y
designator U?, comment TOP243YN
3.3V
pins: 1 C, 2 L, 3 X, 4 S, 5 F, 7 D

## TPS7333QX
designator U?
电源管理器件
pins: 1 GND, 2 ~{EN}, 3 IN, 4 IN, 5 OUT, 6 OUT, 7 SENSE, 8 ~{RESET}

## TPS76801QD
designator U?
电源管理器件
pins: 1 GND, 2 ~{EN}, 3 IN, 4 IN, 5 OUT, 6 OUT, 7 FB/NC, 8 PG

## TXXXXXP
designator U?
隔离变送器
pins: 1 Sout-, 2 Sout+, 3 Sout+, 11 Sin+, 12 Sin-, 13 Pout-, 14 Pout+, 15 NC, 16 NC, 23 Pin+, 24 Pin-

## UC2637N
designator U?
电源管理器件
pins: 1 +Vth, 2 CT, 3 -Vth, 4 Aout, 5 -Vs, 6 +Vs, 7 Bout, 8 +Bin, 9 -Bin, 10 -Ain, 11 +Ain, 12 +C/L, 13 -C/L, 14 SD, 15 +E/A, 16 -E/A, 17 E/A out, 18 Iset

## UC2846N
designator U?
电源管理器件
pins: 1 C/S SS, 2 VREF, 3 C/S-, 4 C/S+, 5 E/A+, 6 E/A-, 7 COMP, 8 CT, 9 RT, 10 SYNC, 11 AOUT, 12 GND, 13 VC, 14 BOUT, 15 VIN, 16 SHUTDOWN

## UC3637
designator U?, comment UC2637
pins: 1 +Vth, 2 CT, 3 -Vth, 4 Aout, 5 -Vs, 6 +Vs, 7 Bout, 8 +Bin, 9 -Bin, 10 -Ain, 11 +Ain, 12 +C/L, 13 -C/L, 14 SD, 15 +E/A, 16 -E/A, 17 E/A out, 18 Iset

## UC3902N
designator U?
电源管理器件
pins: 1 GND, 2 SENSE, 3 ADJ, 4 ADJR, 5 COMP, 6 SHARE-, 7 SHARE+, 8 VCC

## UCC27423
designator U?, comment UCC27423DR/贴片
双路4A High Speed Low-side MOSFET Drivers With Enable
pins: 1 ENA, 2 INA, 3 GND, 4 INB, 5 OB, 6 VDD, 7 OA, 8 ENB
2 alternate drawings of the same symbol

## UTF2955
designator Q?
MOSFET-P-Channel; Published: 8-Jun-2000; LatestRevisionDate: 17-Jul-2002; LatestRevisionNote: Re-released for DXP Platform.; Publisher: Altium Limited
pins: 1 G, 2 D, 3 S

## WS2811
designator U?
pins: 1 OUTR, 2 OUTG, 3 OUTB, 4 GND, 5 DO, 6 DIN, 7 SET, 8 VDD

## X24C45
designator U?
集成块
pins: 1 CE, 2 SK, 3 DI, 4 DO, 5 VSS, 6 ~{RECALL}, 7 ~{AS}, 8 VCC

## X1226
designator U?
pins: 1 X1, 2 X2, 3 PHZ/~{IRQ}, 4 VSS, 5 SDA, 6 SCL, 7 VBACK, 8 VCC

## X5045
designator U?
pins: 1 ~{CS}/WDI, 2 SO, 3 ~{WP}, 4 VSS, 5 SI, 6 SCK, 7 ~{RESET}/RESET, 8 VCC

## X9318
designator U?
数字电位器
pins: 1 ~{INC}, 2 U/~{D}, 3 RH, 4 GND, 5 RW, 6 RL, 7 ~{CS}, 8 VCC

## X9511
designator U?, comment X9511W
数字电位器
pins: 1 ~{PU}, 2 ~{PD}, 3 VH, 4 GND, 5 VW, 6 VL, 7 ~{ASE}, 8 VCC

## X25045
designator U?
集成块
pins: 1 CS, 2 SO, 3 WP, 4 GND, 5 SI, 6 SCK, 7 RST, 8 VCC

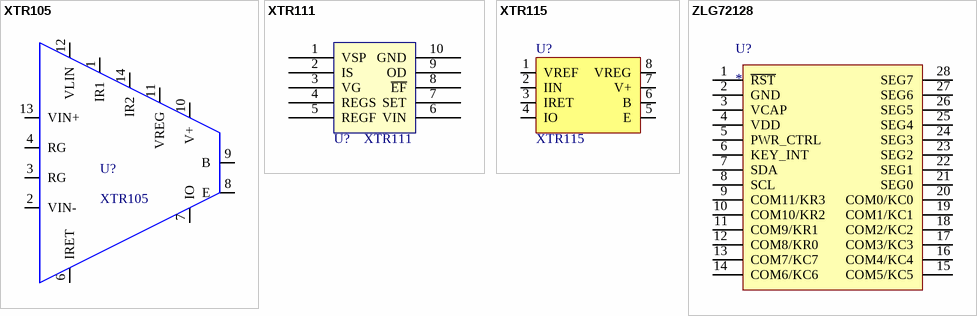
[diagram p18: symbols XTR105 to ZLG72128]

## XTR105
designator U?
电流环
pins: 1 IR1 "J", 2 VIN-, 3 RG, 4 RG, 6 IRET, 7 IO, 8 E, 9 B, 10 V+, 11 VREG, 12 VLIN, 13 VIN+, 14 IR2

## XTR111
designator U?
电压转电流
pins: 1 VSP, 2 IS, 3 VG, 4 REGS, 5 REGF, 6 VIN, 7 SET, 8 ~{EF}, 9 OD, 10 GND

## XTR115
designator U?
pins: 1 VREF (oc), 2 IIN, 3 IRET, 4 IO (power), 5 E, 6 B, 7 V+, 8 VREG

## ZLG72128
designator U?
pins: 1 ~{RST}, 2 GND, 3 VCAP, 4 VDD, 5 PWR_CTRL, 6 KEY_INT, 7 SDA, 8 SCL, 9 COM11/KR3, 10 COM10/KR2, 11 COM9/KR1, 12 COM8/KR0, 13 COM7/KC7, 14 COM6/KC6, 15 COM5/KC5, 16 COM4/KC4, 17 COM3/KC3, 18 COM2/KC2, 19 COM1/KC1, 20 COM0/KC0, 21 SEG0, 22 SEG1, 23 SEG2, 24 SEG3, 25 SEG4, 26 SEG5, 27 SEG6, 28 SEG7